# Altium schematic symbol library integrated_circuits_schematic.SchLib: 128 symbols (part 3 of 5)
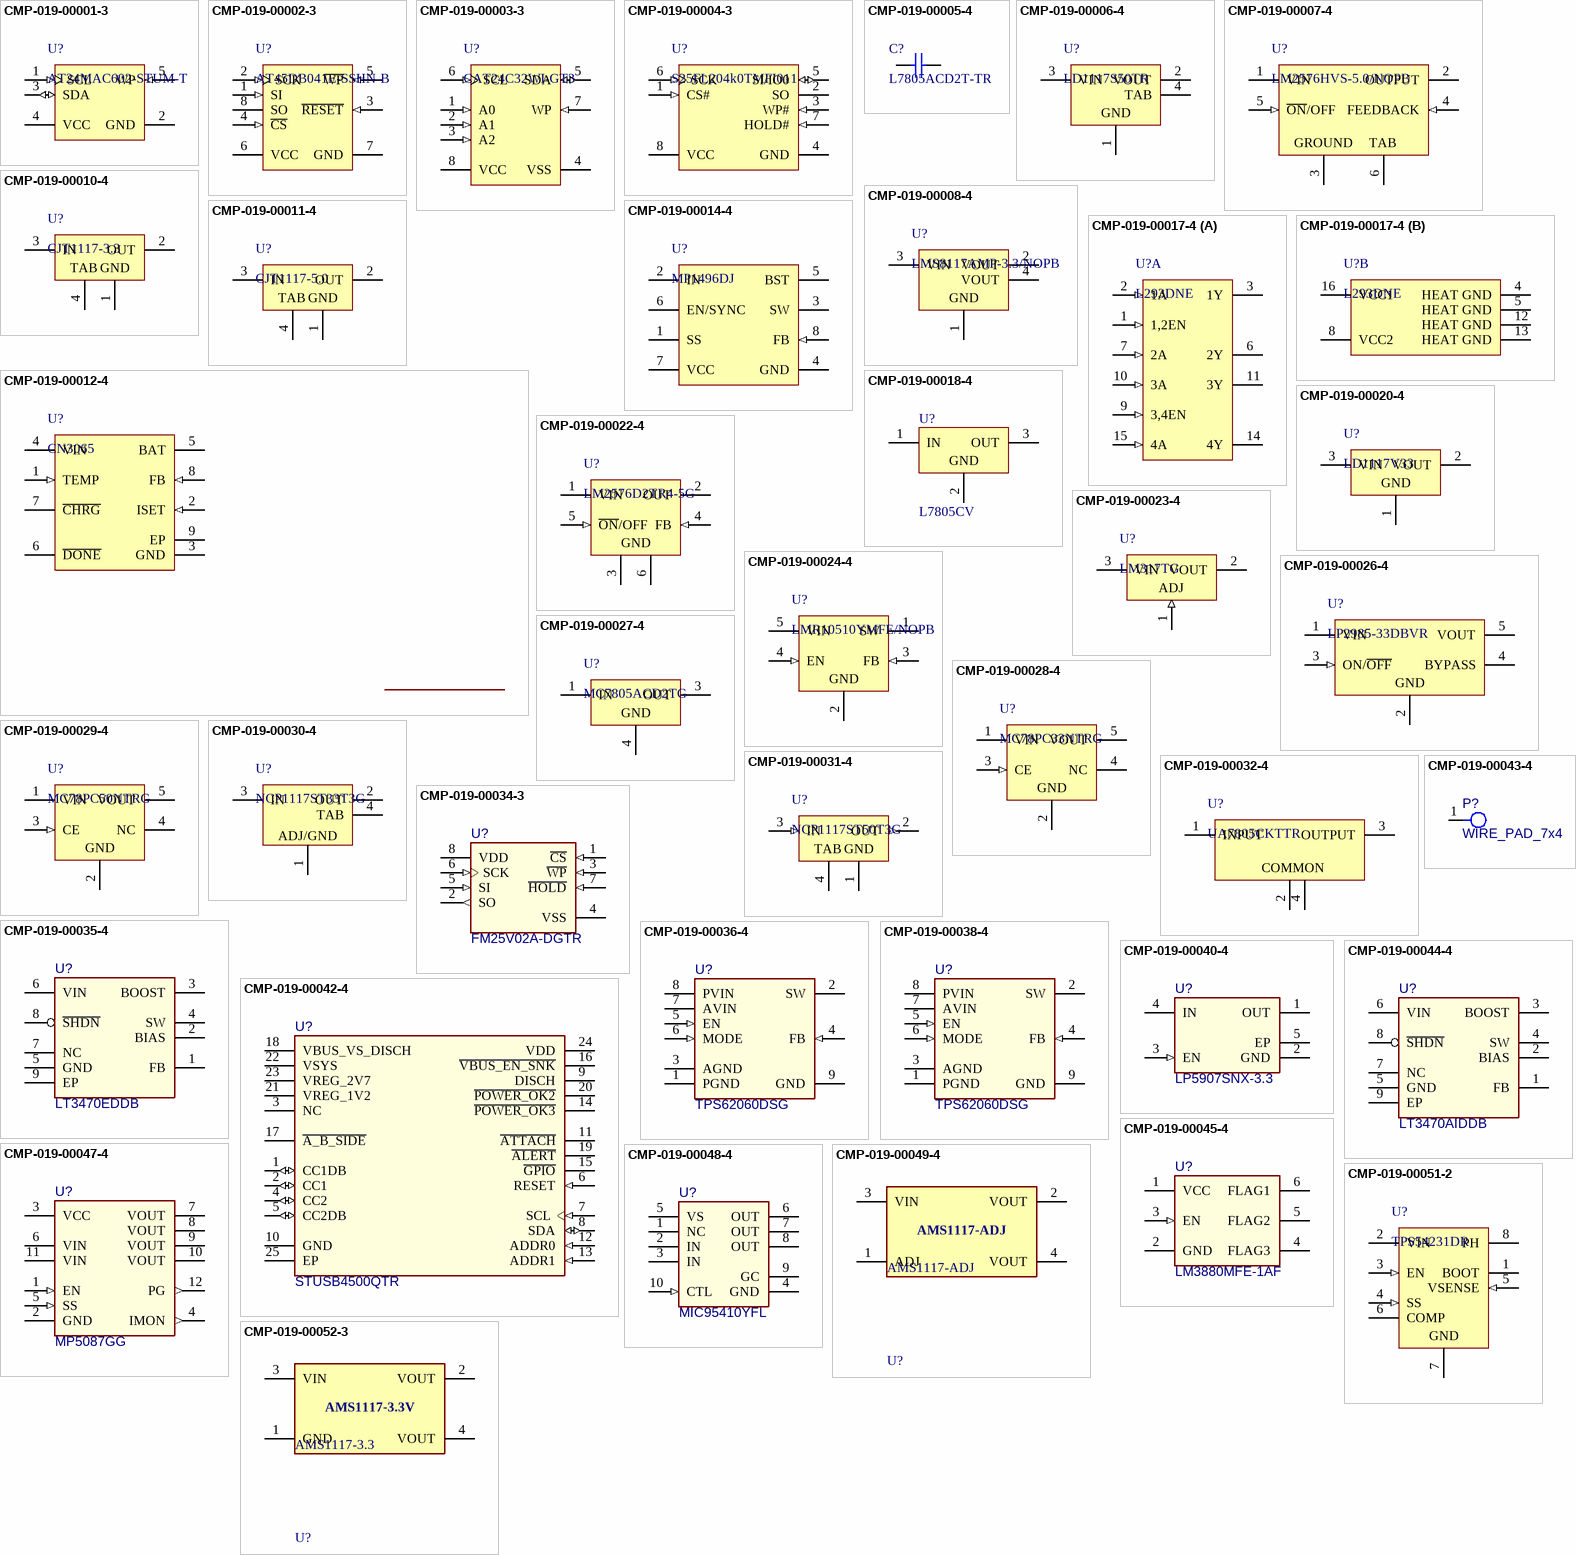
[diagram p9: symbols CMP-019-00001-3 to CMP-019-00052-3]

## CMP-019-00045-4
designator U?, comment LM3880MFE-1AF
Power Sequencer, 6-pin SOT-23, 250 Reel; ComponentLink1URL: http://www.ti.com/general/docs/lit/getliterature.tsp?genericPartNumber=LM3880&fileType=pdf; ComponentLink1Description: Datasheet URL; Pins: 6; RoHS Compliant: Y
footprint DBV0006A_N (SOT23, 6-Leads, Body 3.05x1.75mm, Pitch 0.95mm, IPC Medium Density)
footprint DBV0006A_N (SOT23, 6-Leads, Body 3.05x1.75mm, Pitch 0.95mm, IPC Medium Density)
pins: 1 VCC (power), 2 GND (power), 3 EN (in), 4 FLAG3 (oc), 5 FLAG2 (oc), 6 FLAG1 (oc)

## CMP-019-00047-4
designator U?, comment MP5087GG
Low RDSON Load Switch with Current Monitoring, 5.5 V, 7 A, -40 to 125 degC, 12-Pin QFN, RoHS; Pins: 12; Mounting Technology: SMT
footprint MPS-QFN-12_V (QFN, 12-Leads, Body 2x2mm, Pitch 0.4mm)
footprint MPS-QFN-12_V (QFN, 12-Leads, Body 2x2mm, Pitch 0.4mm)
pins: 1 EN (in), 2 GND (power), 3 VCC (power), 4 IMON (out), 5 SS (in), 6 VIN, 7 VOUT, 8 VOUT, 9 VOUT, 10 VOUT, 11 VIN, 12 PG (out)

## CMP-019-00048-4
designator U?, comment MIC95410YFL
High Side Load Switch, 2.7 to 9 V, 7 A, 6.6 mOhm, -40 to 125 degC, 10-Pin QFN, RoHS; Mounting Technology: SMT; Pins: 10
footprint MCHP-QFN-10_V (QFN, 10-Leads, Body 1.2x2mm, Pitch 0.5mm)
footprint MCHP-QFN-10_V (QFN, 10-Leads, Body 1.2x2mm, Pitch 0.5mm)
pins: 1 NC, 2 IN, 3 IN, 4 GND (power), 5 VS (power), 6 OUT, 7 OUT, 8 OUT, 9 GC, 10 CTL (in)

## CMP-019-00049-4
designator U?, comment AMS1117-ADJ
Adjustable Positive LDO Regulator, PDSO3; Output Current: 1A; Nominal Supply Current: 5mA; Max Supply Voltage: 15V; Dropout Voltage: 1.3V; Case/Package: SOT-223; Locally Supplier Name: Thegioiic; RoHS Compliant: Yes; Pins: 4; Min Operating Temperature: -40°C; Mounting Technology: SMT; Locally Supplier URL: https://www.thegioiic.com/ams1117-adj-ic-dieu-chinh-dien-ap-1a-sot-223; Max Operating Temperature: 125°C
footprint FP-ams1117-IPC_B
footprint FP-ams1117-IPC_C
footprint FP-AMS1117-ADJ-SOT-223
footprint FP-ams1117-IPC_A
pins: 1 ADJ (power), 2 VOUT, 3 VIN (power), 4 VOUT

## CMP-019-00051-2
designator U?, comment TPS54231DR
Switching Regulator, Current-mode, 2A, 570kHz Switching Freq-Max, PDSO8; Max Supply Voltage: 28V; Frequency: 740kHz; Pins: 8; Case/Package: SOP; Locally Supplier URL: https://www.thegioiic.com/tps54231dr-ic-dieu-chinh-giam-ap-2a-8-soic; Locally Supplier Name: Thegioiic; Max Operating Temperature: 150°C; RoHS Compliant: Yes; Min Operating Temperature: -40°C
footprint D0008A_M (SOIC, 8-Leads, Body 5x4mm, Pitch 1.27mm, IPC Low Density)
footprint D0008A_N (SOIC, 8-Leads, Body 5x4mm, Pitch 1.27mm, IPC Medium Density)
footprint D0008A_L (SOIC, 8-Leads, Body 5x4mm, Pitch 1.27mm, IPC High Density)
pins: 1 BOOT "A 0.1 uF bootstrap capacitor is required between BOOT and PH. If the voltage on this capacitor falls below the minimum requirement, the high-side MOSFET is forced to switch off until the capacitor is refreshed.", 2 VIN (power) "Input supply voltage, 3.5 V to 28 V.", 3 EN (in) "Enable pin. Pull below 1.25 V to disable. Float to enable. Programming the input undervoltage lockout with two resistors is recommended.", 4 SS (in) "Slow start pin. An external capacitor connected to this pin sets the output rise time.", 5 VSENSE (in) "Inverting node of the gm error amplifier.", 6 COMP "Error amplifier output, and input to the PWM comparator. Connect frequency compensation components to this pin.", 7 GND (power) "Ground.", 8 PH (power) "The source of the internal high-side power MOSFET"

## CMP-019-00052-3
designator U?, comment AMS1117-3.3
Fixed Positive LDO Regulator, 3.3V, 1.3V Dropout, PDSO3; Output Current: 1A; Max Supply Voltage: 15V; Min Supply Voltage: 4.8V; Case/Package: SOT-223; Dropout Voltage: 1.3V; Output Voltage: 3.3V; Pins: 3; Nominal Supply Current: 1A; RoHS Compliant: Yes; Max Operating Temperature: 125°C; Mounting Technology: SMT; Locally Supplier URL: https://www.thegioiic.com/ams1117-3-3v-ic-on-ap-3-3v-1a-sot-223; Locally Supplier Name: Thegioiic; Min Operating Temperature: -40°C
footprint FP-AMS1117-3.3-SOT-223
footprint FP-AMS1117-IPC_A-1
footprint FP-AMS1117-IPC_C-2
footprint FP-AMS1117-IPC_B-3
pins: 1 GND (power), 2 VOUT, 3 VIN (power), 4 VOUT
text: AMS1117-3.3V

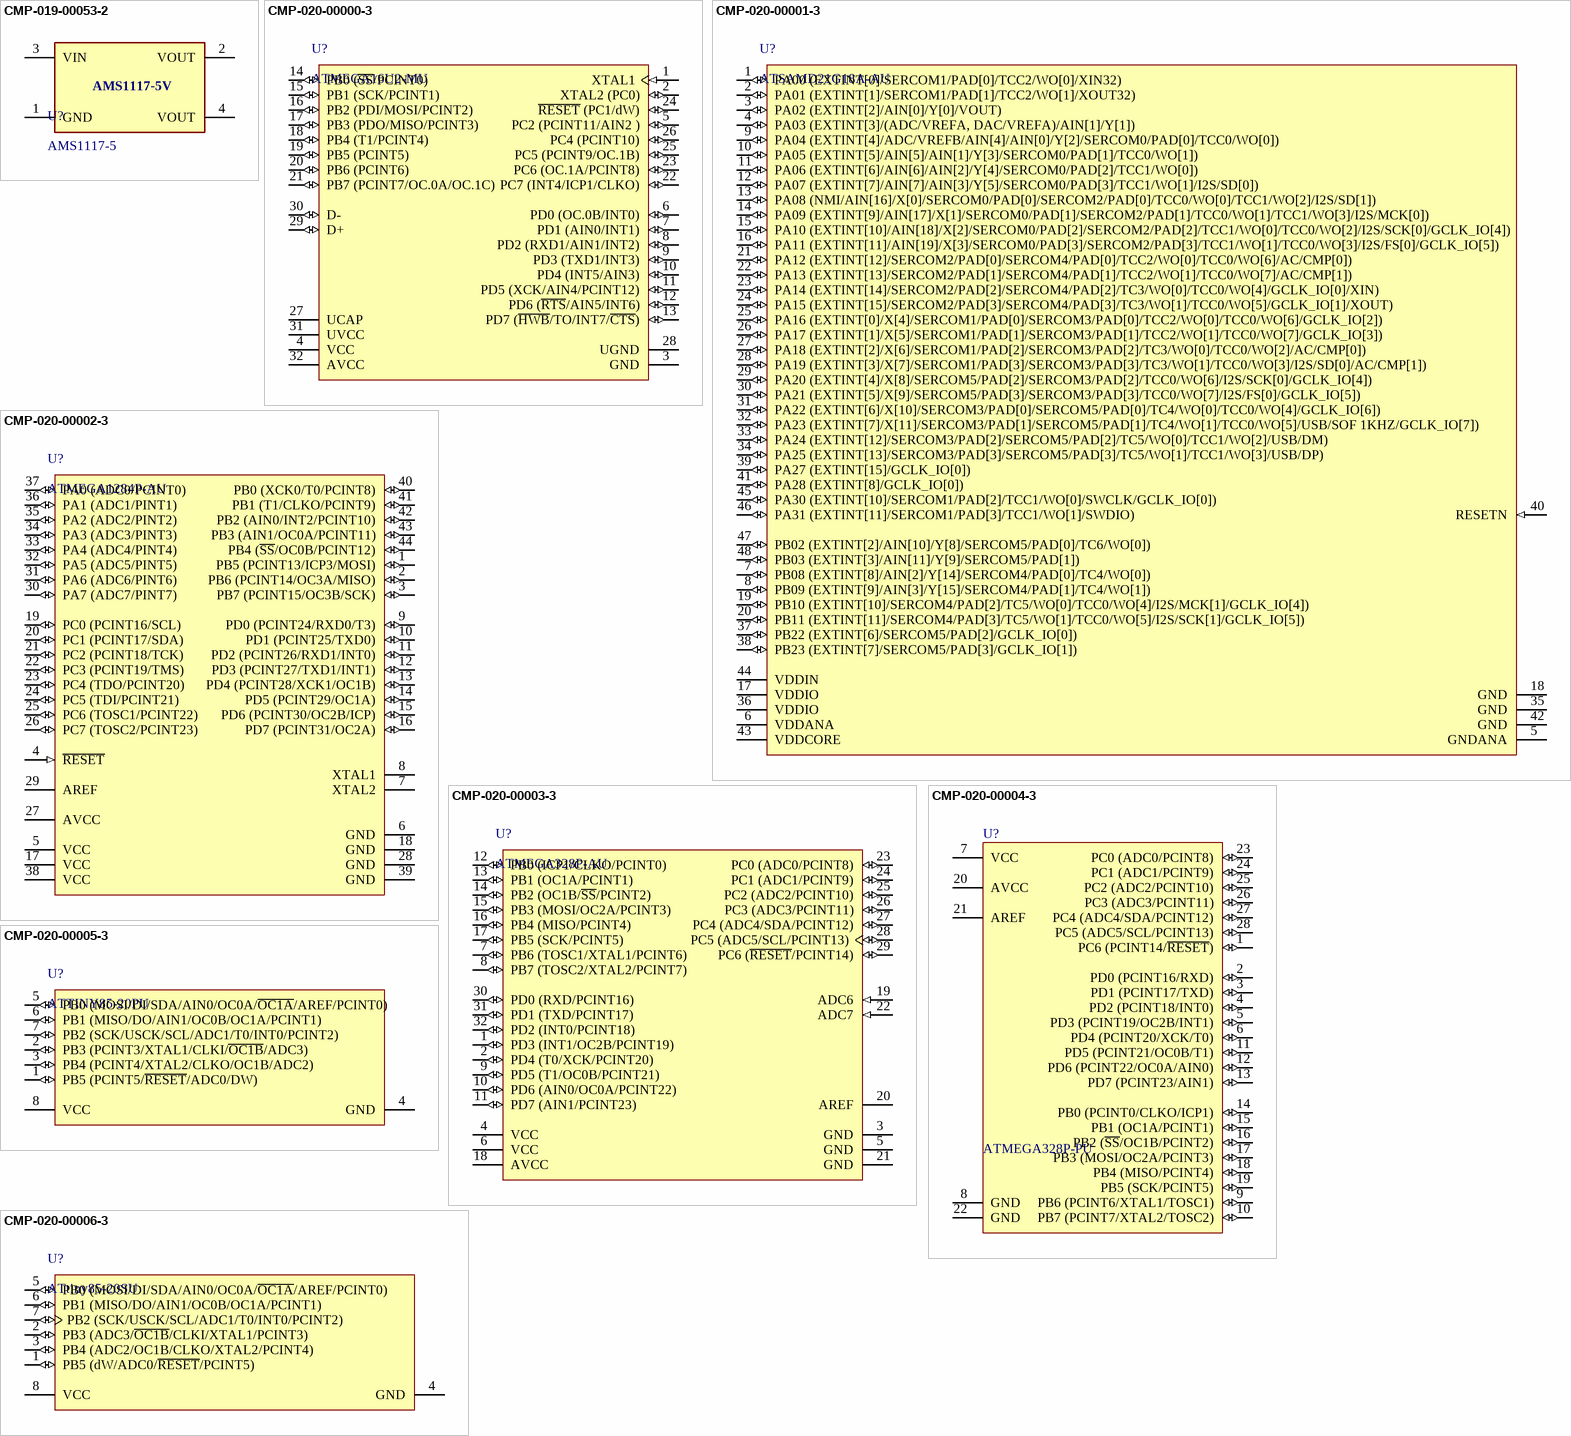
[diagram p3: symbols CMP-019-00053-2 to CMP-020-00006-3]

## CMP-019-00053-2
designator U?, comment AMS1117-5
Fixed Positive LDO Regulator, 5V, 1.3V Dropout, SOT-223; Nominal Supply Current: 5mA; Max Supply Voltage: 15V; Output Current: 1A; Min Supply Voltage: 6.3V; Min Operating Temperature: -40°C; Case/Package: SOT-223; Max Operating Temperature: 125°C; Locally Supplier Name: Thegioiic; Mounting Technology: SMT; Pins: 4; Dropout Voltage: 1.3V; RoHS Compliant: Yes; Locally Supplier URL: https://www.thegioiic.com/ams1117-5-0v-ic-on-ap-5v-1a-sot-223; Output Voltage: 5V
footprint PF_AMS1117-5V-SOT223
pins: 1 GND (power), 2 VOUT, 3 VIN (power), 4 VOUT
text: AMS1117-5V

## CMP-020-00000-3
designator U?, comment ATMEGA16U2-MU
8-Bit Microcontroller with ISP Flash and USB Controller, 16 KB, 16 MHz, 2.7 to 5.5 V, -40 to 85 degC, 32-Pin VQFN, RoHS, Tray; Manufacturer: Atmel; Package Version: Rev. N, 01/2015; Max Clock Frequency: 16MHz; I/Os: 22; Density: 16KB; Min Supply Voltage: 2.7V; RAM Size: 1.25KB; Interface: UART; Max Supply Voltage: 5.5V; RoHS Compliant: True; Case/Package: QFN; Max Operating Temperature: 85°C; Package Description: 32-Pin Quad Flat No Lead Package, Body 5 x 5 mm, Pitch 0.5 mm; Min Operating Temperature: -40°C; Mounting Technology: SM; Datasheet Version: Rev. 7799E, 09/2012; Package Reference: QFN32; Package Quantity: 2450; Frequency: 16MHz; Datasheet URL: http://www.atmel.com/Images/doc7799.pdf; Packaging: Tray; Pins: 32; Package URL: http://www.atmel.com/images/atmel-42129-sam-d20_datasheet.pdf; Manufacturer URL: http://www.atmel.com/
footprint ATML-QFN-32_N (QFN, 32-Leads, Body 5.00x5.00mm, Pitch 0.50mm, Thermal Pad 3.60x3.60mm, IPC Medium Density)
footprint ATML-QFN-32_L (QFN, 32-Leads, Body 5x5mm, Pitch 0.5mm, Thermal Pad 3.6x3.6mm, IPC High Density)
footprint ATML-QFN-32_M (QFN, 32-Leads, Body 5x5mm, Pitch 0.5mm, Thermal Pad 3.6x3.6mm, IPC Low Density)
pins: 1 XTAL1 (in) "Input to the inverting Oscillator amplifier and input to the internal clock operating circuit.", 2 XTAL2 (PC0) (io), 3 GND (power) "Ground.", 4 VCC (power) "Digital supply voltage.", 5 PC2 (PCINT11/AIN2 ) (io), 6 PD0 (OC.0B/INT0) (io), 7 PD1 (AIN0/INT1) (io), 8 PD2 (RXD1/AIN1/INT2) (io), 9 PD3 (TXD1/INT3) (io), 10 PD4 (INT5/AIN3) (io), 11 PD5 (XCK/AIN4/PCINT12) (io), 12 PD6 (~{RTS}/AIN5/INT6) (io), 13 PD7 (~{HWB}/TO/INT7/~{CTS}) (io), 14 PB0 (~{SS}/PCINT0) (io), 15 PB1 (SCK/PCINT1) (io), 16 PB2 (PDI/MOSI/PCINT2) (io), 17 PB3 (PDO/MISO/PCINT3) (io), 18 PB4 (T1/PCINT4) (io), 19 PB5 (PCINT5) (io), 20 PB6 (PCINT6) (io), 21 PB7 (PCINT7/OC.0A/OC.1C) (io), 22 PC7 (INT4/ICP1/CLKO) (io), 23 PC6 (OC.1A/PCINT8) (io), 24 ~{RESET} (PC1/dW) (io), 25 PC5 (PCINT9/OC.1B) (io), 26 PC4 (PCINT10) (io), 27 UCAP (power) "USB Pads Internal Regulator Output supply voltage. Should be connected to an external capacitor (1uF).", 28 UGND (power) "USB Ground.", 29 D+ (io) "USB Full Speed Positive Data Upstream Port", 30 D- (io) "USB Full Speed Negative Data Upstream Port", 31 UVCC (power) "USB Pads Internal Regulator Input supply voltage.", 32 AVCC (power) "AVCC is the supply voltage pin (input) for all analog features (Analog Comparator, PLL). It should be externally connected to VCC through a low-pass filter."

## CMP-020-00001-3
designator U?, comment ATSAMD21G18A-AU
SMART ARM-Based Microcontroller, 1.62 to 3.63 V, 256 KB Flash, 32 KB SRAM, -40 to 85 degC, 48-Pin TQFP, RoHS, Tray; Manufacturer: Atmel; Interface: USART; I/Os: 38; Max Supply Voltage: 3.63V; Min Supply Voltage: 1.62V; Density: 256KB; RAM Size: 32KB; Package Reference: TQFP48; Datasheet URL: http://www.atmel.com/images/atmel-42181-sam-d21_datasheet.pdf; Mounting Technology: SM; Datasheet Version: Rev. N, 10/2016; Package Description: 48-Pin Thin Profile Plastic Quad Flat Package, Body 7 x 7 mm, Pitch 0.5 mm; Case/Package: TQFP; Pins: 48; Min Operating Temperature: -40°C; Manufacturer URL: http://www.atmel.com/; Packaging: Tray; Max Operating Temperature: 85°C; RoHS Compliant: True
footprint ATML-TQFP48_M (QFP, 48-Leads, Body 7x7mm, Pitch 0.5mm, IPC Low Density)
footprint ATML-TQFP48_L (QFP, 48-Leads, Body 7x7mm, Pitch 0.5mm, IPC High Density)
footprint ATML-TQFP48_N (QFP, 48-Leads, Body 7x7mm, Pitch 0.5mm, IPC Medium Density)
pins: 1 PA00 (EXTINT[0]/SERCOM1/PAD[0]/TCC2/WO[0]/XIN32) (io), 2 PA01 (EXTINT[1]/SERCOM1/PAD[1]/TCC2/WO[1]/XOUT32) (io), 3 PA02 (EXTINT[2]/AIN[0]/Y[0]/VOUT) (io), 4 PA03 (EXTINT[3]/(ADC/VREFA, DAC/VREFA)/AIN[1]/Y[1]) (io), 5 GNDANA (power) "Ground for the analog power domain", 6 VDDANA (power) "Analog supply voltage", 7 PB08 (EXTINT[8]/AIN[2]/Y[14]/SERCOM4/PAD[0]/TC4/WO[0]) (io), 8 PB09 (EXTINT[9]/AIN[3]/Y[15]/SERCOM4/PAD[1]/TC4/WO[1]) (io), 9 PA04 (EXTINT[4]/ADC/VREFB/AIN[4]/AIN[0]/Y[2]/SERCOM0/PAD[0]/TCC0/WO[0]) (io), 10 PA05 (EXTINT[5]/AIN[5]/AIN[1]/Y[3]/SERCOM0/PAD[1]/TCC0/WO[1]) (io), 11 PA06 (EXTINT[6]/AIN[6]/AIN[2]/Y[4]/SERCOM0/PAD[2]/TCC1/WO[0]) (io), 12 PA07 (EXTINT[7]/AIN[7]/AIN[3]/Y[5]/SERCOM0/PAD[3]/TCC1/WO[1]/I2S/SD[0]) (io), 13 PA08 (NMI/AIN[16]/X[0]/SERCOM0/PAD[0]/SERCOM2/PAD[0]/TCC0/WO[0]/TCC1/WO[2]/I2S/SD[1]) (io), 14 PA09 (EXTINT[9]/AIN[17]/X[1]/SERCOM0/PAD[1]/SERCOM2/PAD[1]/TCC0/WO[1]/TCC1/WO[3]/I2S/MCK[0]) (io), 15 PA10 (EXTINT[10]/AIN[18]/X[2]/SERCOM0/PAD[2]/SERCOM2/PAD[2]/TCC1/WO[0]/TCC0/WO[2]/I2S/SCK[0]/GCLK_IO[4]) (io), 16 PA11 (EXTINT[11]/AIN[19]/X[3]/SERCOM0/PAD[3]/SERCOM2/PAD[3]/TCC1/WO[1]/TCC0/WO[3]/I2S/FS[0]/GCLK_IO[5]) (io), 17 VDDIO (power) "Digital supply voltage", 18 GND (power) "Ground", 19 PB10 (EXTINT[10]/SERCOM4/PAD[2]/TC5/WO[0]/TCC0/WO[4]/I2S/MCK[1]/GCLK_IO[4]) (io), 20 PB11 (EXTINT[11]/SERCOM4/PAD[3]/TC5/WO[1]/TCC0/WO[5]/I2S/SCK[1]/GCLK_IO[5]) (io), 21 PA12 (EXTINT[12]/SERCOM2/PAD[0]/SERCOM4/PAD[0]/TCC2/WO[0]/TCC0/WO[6]/AC/CMP[0]) (io), 22 PA13 (EXTINT[13]/SERCOM2/PAD[1]/SERCOM4/PAD[1]/TCC2/WO[1]/TCC0/WO[7]/AC/CMP[1]) (io), 23 PA14 (EXTINT[14]/SERCOM2/PAD[2]/SERCOM4/PAD[2]/TC3/WO[0]/TCC0/WO[4]/GCLK_IO[0]/XIN) (io), 24 PA15 (EXTINT[15]/SERCOM2/PAD[3]/SERCOM4/PAD[3]/TC3/WO[1]/TCC0/WO[5]/GCLK_IO[1]/XOUT) (io), 25 PA16 (EXTINT[0]/X[4]/SERCOM1/PAD[0]/SERCOM3/PAD[0]/TCC2/WO[0]/TCC0/WO[6]/GCLK_IO[2]) (io), 26 PA17 (EXTINT[1]/X[5]/SERCOM1/PAD[1]/SERCOM3/PAD[1]/TCC2/WO[1]/TCC0/WO[7]/GCLK_IO[3]) (io), 27 PA18 (EXTINT[2]/X[6]/SERCOM1/PAD[2]/SERCOM3/PAD[2]/TC3/WO[0]/TCC0/WO[2]/AC/CMP[0]) (io), 28 PA19 (EXTINT[3]/X[7]/SERCOM1/PAD[3]/SERCOM3/PAD[3]/TC3/WO[1]/TCC0/WO[3]/I2S/SD[0]/AC/CMP[1]) (io), 29 PA20 (EXTINT[4]/X[8]/SERCOM5/PAD[2]/SERCOM3/PAD[2]/TCC0/WO[6]/I2S/SCK[0]/GCLK_IO[4]) (io), 30 PA21 (EXTINT[5]/X[9]/SERCOM5/PAD[3]/SERCOM3/PAD[3]/TCC0/WO[7]/I2S/FS[0]/GCLK_IO[5]) (io), 31 PA22 (EXTINT[6]/X[10]/SERCOM3/PAD[0]/SERCOM5/PAD[0]/TC4/WO[0]/TCC0/WO[4]/GCLK_IO[6]) (io), 32 PA23 (EXTINT[7]/X[11]/SERCOM3/PAD[1]/SERCOM5/PAD[1]/TC4/WO[1]/TCC0/WO[5]/USB/SOF 1KHZ/GCLK_IO[7]) (io), 33 PA24 (EXTINT[12]/SERCOM3/PAD[2]/SERCOM5/PAD[2]/TC5/WO[0]/TCC1/WO[2]/USB/DM) (io), 34 PA25 (EXTINT[13]/SERCOM3/PAD[3]/SERCOM5/PAD[3]/TC5/WO[1]/TCC1/WO[3]/USB/DP) (io), 35 GND (power) "Ground", 36 VDDIO (power) "Digital supply voltage", 37 PB22 (EXTINT[6]/SERCOM5/PAD[2]/GCLK_IO[0]) (io), 38 PB23 (EXTINT[7]/SERCOM5/PAD[3]/GCLK_IO[1]) (io), 39 PA27 (EXTINT[15]/GCLK_IO[0]) (io), 40 RESETN (in) "Reset pin", 41 PA28 (EXTINT[8]/GCLK_IO[0]) (io), 42 GND (power) "Ground", 43 VDDCORE (power) "Core supply voltage / external decoupling pin", 44 VDDIN (power), 45 PA30 (EXTINT[10]/SERCOM1/PAD[2]/TCC1/WO[0]/SWCLK/GCLK_IO[0]) (io), 46 PA31 (EXTINT[11]/SERCOM1/PAD[3]/TCC1/WO[1]/SWDIO) (io), 47 PB02 (EXTINT[2]/AIN[10]/Y[8]/SERCOM5/PAD[0]/TC6/WO[0]) (io), 48 PB03 (EXTINT[3]/AIN[11]/Y[9]/SERCOM5/PAD[1]) (io)

## CMP-020-00002-3
designator U?, comment ATMEGA1284P-AU
8-Bit Microcontroller with 128 KBytes In-System Programmable Flash, 32 I/Os, -40 to 85 degC, 44-Pin TQFP (44A), RoHS, Tray; Manufacturer: Atmel; Density: 128KB; Frequency: 20MHz; RAM Size: 16KB; PWM Channels: 6; USB Channels: 0; I/Os: 32; Min Supply Voltage: 1.8V; Max Supply Voltage: 5.5V; Interface: USART; ADC Channels: 8; Pins: 8; Manufacturer URL: http://www.atmel.com/; Case/Package: TQFP; Max Operating Temperature: 85°C; Package Description: 44-Pin Quad Flat Package, Body 10 x 10 mm, Pitch 0.8 mm; Mounting Technology: SM; Package Reference: 44A; Min Operating Temperature: -40°C; Clock Frequency: 20MHz; Datasheet Version: Rev. 8272G, 01/2015; Package Quantity: 160; Ethernet Channels: 0; Packaging: Tray; Datasheet URL: http://www.atmel.com/images/atmel-8272-8-bit-avr-microcontroller-atmega164a_pa-324a_pa-644a_pa-1284_p_summary.pdf; Max Clock Frequency: 20MHz; RoHS Compliant: True
footprint ATML-44A_M (TQFP, 44-Leads, Body 10x10mm, Pitch 0.8mm, IPC Low Density)
footprint ATML-44A_N (TQFP, 44-Leads, Body 10x10mm, Pitch 0.8mm, IPC Medium Density)
footprint ATML-44A_L (TQFP, 44-Leads, Body 10x10mm, Pitch 0.8mm, IPC High Density)
pins: 1 PB5 (PCINT13/ICP3/MOSI) (io), 2 PB6 (PCINT14/OC3A/MISO) (io), 3 PB7 (PCINT15/OC3B/SCK) (io), 4 ~{RESET} (in) "Reset input.", 5 VCC (power) "Digital supply voltage.", 6 GND (power) "Ground.", 7 XTAL2 "Output from the inverting Oscillator amplifier.", 8 XTAL1 "Input to the inverting Oscillator amplifier and input to the internal clock operating circuit.", 9 PD0 (PCINT24/RXD0/T3) (io), 10 PD1 (PCINT25/TXD0) (io), 11 PD2 (PCINT26/RXD1/INT0) (io), 12 PD3 (PCINT27/TXD1/INT1) (io), 13 PD4 (PCINT28/XCK1/OC1B) (io), 14 PD5 (PCINT29/OC1A) (io), 15 PD6 (PCINT30/OC2B/ICP) (io), 16 PD7 (PCINT31/OC2A) (io), 17 VCC (power) "Digital supply voltage.", 18 GND (power) "Ground.", 19 PC0 (PCINT16/SCL) (io), 20 PC1 (PCINT17/SDA) (io), 21 PC2 (PCINT18/TCK) (io), 22 PC3 (PCINT19/TMS) (io), 23 PC4 (TDO/PCINT20) (io), 24 PC5 (TDI/PCINT21) (io), 25 PC6 (TOSC1/PCINT22) (io), 26 PC7 (TOSC2/PCINT23) (io), 27 AVCC (power) "AVCC is the supply voltage pin for Port A and the Analog-to-digital Converter.", 28 GND (power) "Ground.", 29 AREF "This is the analog reference pin for the Analog-to-digital Converter.", 30 PA7 (ADC7/PINT7) (io), 31 PA6 (ADC6/PINT6) (io), 32 PA5 (ADC5/PINT5) (io), 33 PA4 (ADC4/PINT4) (io), 34 PA3 (ADC3/PINT3) (io), 35 PA2 (ADC2/PINT2) (io), 36 PA1 (ADC1/PINT1) (io), 37 PA0 (ADC0/PCINT0) (io), 38 VCC (power) "Digital supply voltage.", 39 GND (power) "Ground.", 40 PB0 (XCK0/T0/PCINT8) (io), 41 PB1 (T1/CLKO/PCINT9) (io), 42 PB2 (AIN0/INT2/PCINT10) (io), 43 PB3 (AIN1/OC0A/PCINT11) (io), 44 PB4 (~{SS}/OC0B/PCINT12) (io)

## CMP-020-00003-3
designator U?, comment ATMEGA328P-AU
8-Bit Microcontroller with 32 KBytes In-System Programmable Flash, 23 I/Os, -40 to 85 degC, 32-Pin TQFP (32A), RoHS, Tray; Manufacturer: Atmel; PWM Channels: 6; Frequency: 20MHz; RAM Size: 2KB; ADC Channels: 8; Max Supply Voltage: 5.5V; Density: 32KB; USB Channels: 0; I/Os: 23; Min Supply Voltage: 1.8V; Interface: USART; Package Reference: 32A; Package Description: 32-Pin Thin Profile Plastic Quad Flat Package, Body 7 x 7 mm, Pitch 0.8 mm; Max Operating Temperature: 85°C; Mounting Technology: SM; Datasheet URL: http://www.atmel.com/images/Atmel-8271-8-bit-AVR-Microcontroller-ATmega48A-48PA-88A-88PA-168A-168PA-328-328P_datasheet_Complete.pdf; Pins: 32; Packaging: Tray; RoHS Compliant: True; Max Clock Frequency: 20MHz; Ethernet Channels: 0; Clock Frequency: 20MHz; Case/Package: TQFP; Manufacturer URL: http://www.atmel.com/; Datasheet Version: Rev. 8271J, 11/2015; Package Quantity: 250; Min Operating Temperature: -40°C
footprint ATML-32A_N (TQFP, 32-Leads, Body 7x7mm, Pitch 0.8mm, IPC Medium Density)
footprint ATML-32A_L (TQFP, 32-Leads, Body 7x7mm, Pitch 0.8mm, IPC High Density)
footprint ATML-32A_M (TQFP, 32-Leads, Body 7x7mm, Pitch 0.8mm, IPC Low Density)
pins: 1 PD3 (INT1/OC2B/PCINT19) (io), 2 PD4 (T0/XCK/PCINT20) (io), 3 GND (power) "Ground.", 4 VCC (power) "Digital supply voltage.", 5 GND (power) "Ground.", 6 VCC (power) "Digital supply voltage.", 7 PB6 (TOSC1/XTAL1/PCINT6) (io), 8 PB7 (TOSC2/XTAL2/PCINT7) (io), 9 PD5 (T1/OC0B/PCINT21) (io), 10 PD6 (AIN0/OC0A/PCINT22) (io), 11 PD7 (AIN1/PCINT23) (io), 12 PB0 (ICP1/CLKO/PCINT0) (io), 13 PB1 (OC1A/PCINT1) (io), 14 PB2 (OC1B/~{SS}/PCINT2) (io), 15 PB3 (MOSI/OC2A/PCINT3) (io), 16 PB4 (MISO/PCINT4) (io), 17 PB5 (SCK/PCINT5) (io), 18 AVCC (power) "AVCC is the supply voltage pin for the A/D Converter, PC3:0, and ADC7:6. It should be externally connected to VCC, even if the ADC is not used. If the ADC is used, it should be connected to VCC through a low-pass filter. (See Datasheet)", 19 ADC6 (in) "In the TQFP and QFN/MLF package, ADC7:6 serve as analog inputs to the A/D converter.These pins are powered from the analog supply and serve as 10-bit ADC channels.", 20 AREF "AREF is the analog reference pin for the A/D Converter.", 21 GND (power) "Ground.", 22 ADC7 (in) "In the TQFP and QFN/MLF package, ADC7:6 serve as analog inputs to the A/D converter.These pins are powered from the analog supply and serve as 10-bit ADC channels.", 23 PC0 (ADC0/PCINT8) (io), 24 PC1 (ADC1/PCINT9) (io), 25 PC2 (ADC2/PCINT10) (io), 26 PC3 (ADC3/PCINT11) (io), 27 PC4 (ADC4/SDA/PCINT12) (io), 28 PC5 (ADC5/SCL/PCINT13) (io), 29 PC6 (~{RESET}/PCINT14) (io), 30 PD0 (RXD/PCINT16) (io), 31 PD1 (TXD/PCINT17) (io), 32 PD2 (INT0/PCINT18) (io)

## CMP-020-00004-3
designator U?, comment ATMEGA328P-PU
8-Bit Microcontroller with 32 KBytes In-System Programmable Flash, 23 I/Os, -40 to 85 degC, 28-Pin PDIP (28P3), RoHS, Tube; Manufacturer: Atmel; I/Os: 23; Density: 32KB; Package Version: Rev. B, 09/2001; Max Clock Frequency: 20MHz; Interface: USART; Max Supply Voltage: 5.5V; Min Supply Voltage: 1.8V; Ethernet Channels: 0; RAM Size: 2KB; RoHS Compliant: True; Datasheet URL: http://www.atmel.com/images/Atmel-8271-8-bit-AVR-Microcontroller-ATmega48A-48PA-88A-88PA-168A-168PA-328-328P_datasheet_Complete.pdf; Packaging: Rail/Tube; Manufacturer URL: http://www.atmel.com/; Mounting Technology: TH; Package URL: http://www.atmel.com/images/Atmel-8271-8-bit-AVR-Microcontroller-ATmega48A-48PA-88A-88PA-168A-168PA-328-328P_datasheet_Complete.pdf; Datasheet Version: Rev. 8271J, 11/2015; Package Description: 28-Pin Plastic Dual Inline Package, Body 34.671 x 7.3025 mm, Pitch 2.54 mm; Package Quantity: 14; Min Operating Temperature: -40°C; Max Operating Temperature: 85°C; Case/Package: DIP; Pins: 28; Package Reference: 28P3
footprint ATML-28P3 (DIP, 28-Leads, Body 34.8x7.2mm, Pitch 2.54mm)
pins: 1 PC6 (PCINT14/~{RESET}) (io), 2 PD0 (PCINT16/RXD) (io), 3 PD1 (PCINT17/TXD) (io), 4 PD2 (PCINT18/INT0) (io), 5 PD3 (PCINT19/OC2B/INT1) (io), 6 PD4 (PCINT20/XCK/T0) (io), 7 VCC (power), 8 GND (power), 9 PB6 (PCINT6/XTAL1/TOSC1) (io), 10 PB7 (PCINT7/XTAL2/TOSC2) (io), 11 PD5 (PCINT21/OC0B/T1) (io), 12 PD6 (PCINT22/OC0A/AIN0) (io), 13 PD7 (PCINT23/AIN1) (io), 14 PB0 (PCINT0/CLKO/ICP1) (io), 15 PB1 (OC1A/PCINT1) (io), 16 PB2 (~{SS}/OC1B/PCINT2) (io), 17 PB3 (MOSI/OC2A/PCINT3) (io), 18 PB4 (MISO/PCINT4) (io), 19 PB5 (SCK/PCINT5) (io), 20 AVCC (power), 21 AREF (power), 22 GND (power), 23 PC0 (ADC0/PCINT8) (io), 24 PC1 (ADC1/PCINT9) (io), 25 PC2 (ADC2/PCINT10) (io), 26 PC3 (ADC3/PCINT11) (io), 27 PC4 (ADC4/SDA/PCINT12) (io), 28 PC5 (ADC5/SCL/PCINT13) (io)

## CMP-020-00005-3
designator U?, comment ATTINY85-20PU
8-bit AVR(R) Microcontroller with 8 KBytes In-System Programmable Flash, 2.7 to 5.5 V, -40 to 85 degC, 8-Pin DIP, Pb-Free; Manufacturer: Atmel; Frequency: 20MHz; Max Supply Voltage: 5.5V; Density: 8KB; UART Channels: 1; USB Channels: 0; I/Os: 6; RAM Size: 512B; Interface: SPI; ADC Channels: 4; Min Supply Voltage: 2.7V; Package Version: Rev. E, 07/2014; Max Operating Temperature: 85°C; Package Description: 8-Pin Plastic Dual Inline Package, Body 9.271 x 6.35 mm, Pitch 2.54 mm; Pins: 8; Min Operating Temperature: -40°C; Manufacturer URL: http://www.atmel.com/; Packaging: Rail/Tube; Package Quantity: 50; Datasheet Version: Rev. 2586K, 01/2008; Max Clock Frequency: 20MHz; Package URL: http://www.atmel.com/Images/doc2535.pdf; PWM Channels: 6; Datasheet URL: https://datasheet.ciiva.com/20168/73-5122-20168321.pdf; Mounting Technology: TH; RoHS Compliant: True; Package Reference: 8P3; Case/Package: DIP
footprint ATML-8P3 (DIP, 8-Leads, Body 10.15x7.1mm, Pitch 2.54mm)
pins: 1 PB5 (PCINT5/~{RESET}/ADC0/DW) (io), 2 PB3 (PCINT3/XTAL1/CLKI/~{OC1B}/ADC3) (io), 3 PB4 (PCINT4/XTAL2/CLKO/OC1B/ADC2) (io), 4 GND (power), 5 PB0 (MOSI/DI/SDA/AIN0/OC0A/~{OC1A}/AREF/PCINT0) (io), 6 PB1 (MISO/DO/AIN1/OC0B/OC1A/PCINT1) (io), 7 PB2 (SCK/USCK/SCL/ADC1/T0/INT0/PCINT2) (io), 8 VCC (power)

## CMP-020-00006-3
designator U?, comment ATtiny85-20SU
8-bit AVR Microcontroller with In-System Programmable Flash, 2.7 to 5.5 V, 20 MHz, 8 KB Flash, 0.5 KB EEPROM, 0.5 KB SRAM, -40 to 85 degC, 8-Pin SOIC (8S2), RoHS, Tube; Manufacturer: Atmel; ADC Channels: 4; Max Supply Voltage: 5.5V; PWM Channels: 6; UART Channels: 1; Interface: SPI; USB Channels: 0; Min Supply Voltage: 2.7V; Frequency: 20MHz; RAM Size: 512B; Density: 8KB; Datasheet Version: Rev. 2586Q, 08/2013; Package Quantity: 95; RoHS Compliant: True; Manufacturer URL: http://www.atmel.com/; Datasheet URL: http://www.atmel.com/Images/Atmel-2586-AVR-8-bit-Microcontroller-ATtiny25-ATtiny45-ATtiny85_Datasheet.pdf; Package Description: 8-Pin Small Outline Integrated Circuit Package, Body 5.29 x 5.24 mm, Pitch 1.27 mm; Mounting Technology: SM; Max Operating Temperature: 85°C; Case/Package: SOIC; I/Os: 6; Max Clock Frequency: 20MHz; Packaging: Rail/Tube; Min Operating Temperature: -40°C; Pins: 8; Package Reference: 8S2
footprint ATML-8S2_L (SOIC, 8-Leads, Body 5.4x5.4mm, Pitch 1.27mm, IPC High Density)
footprint ATML-8S2_M (SOIC, 8-Leads, Body 5.4x5.4mm, Pitch 1.27mm, IPC Low Density)
footprint ATML-8S2_N (SOIC, 8-Leads, Body 5.4x5.4mm, Pitch 1.27mm, IPC Medium Density)
pins: 1 PB5 (dW/ADC0/~{RESET}/PCINT5) (io), 2 PB3 (ADC3/~{OC1B}/CLKI/XTAL1/PCINT3) (io), 3 PB4 (ADC2/OC1B/CLKO/XTAL2/PCINT4) (io), 4 GND (power) "Ground.", 5 PB0 (MOSI/DI/SDA/AIN0/OC0A/~{OC1A}/AREF/PCINT0) (io), 6 PB1 (MISO/DO/AIN1/OC0B/OC1A/PCINT1) (io), 7 PB2 (SCK/USCK/SCL/ADC1/T0/INT0/PCINT2) (io), 8 VCC (power) "Supply voltage."

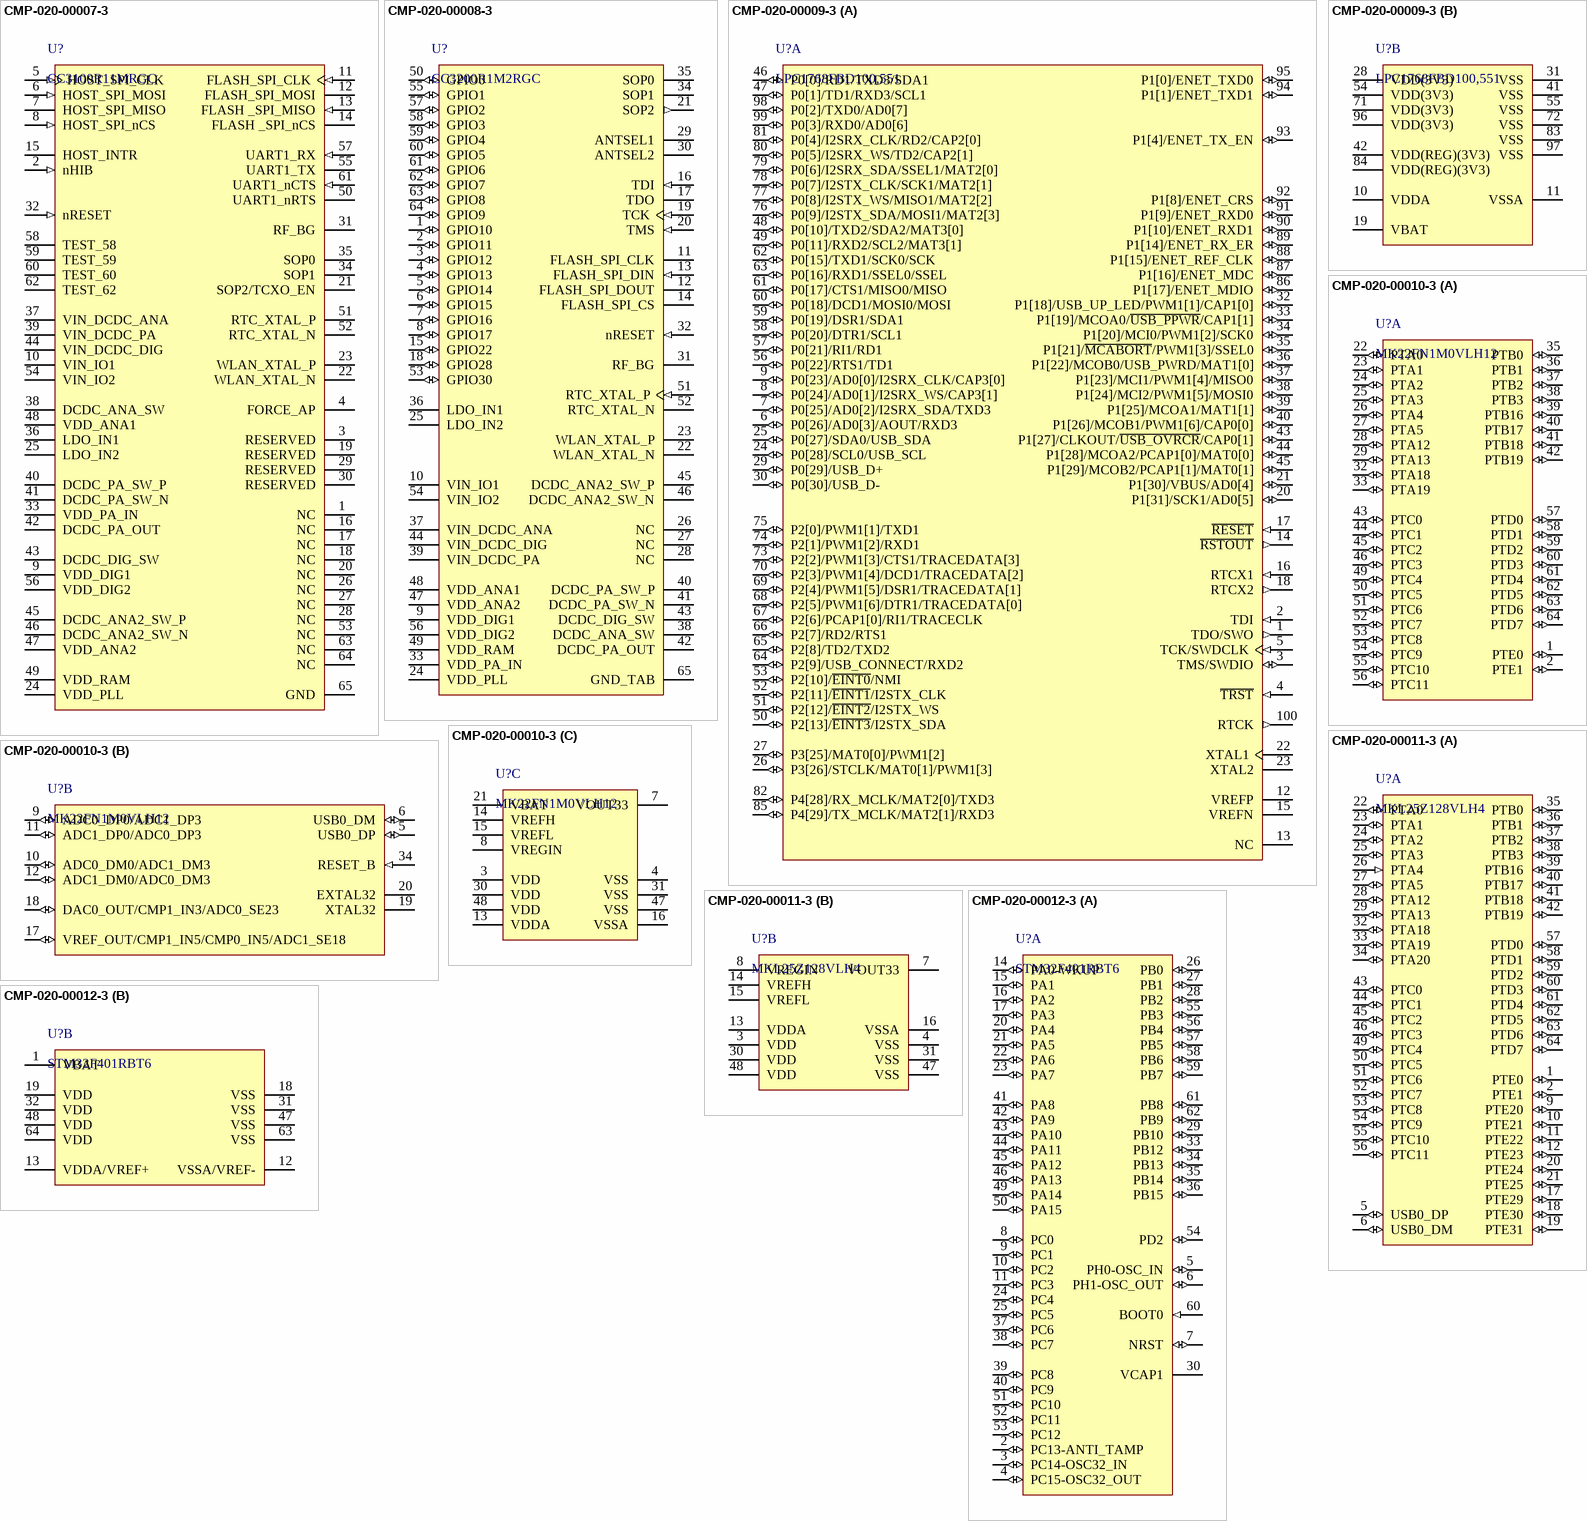
[diagram p4: symbols CMP-020-00007-3 to CMP-020-00012-3]

## CMP-020-00007-3
designator U?, comment CC3100R11MRGC
SimpleLink(TM) Wi-Fi(R) Network Processor, Internet-of-Things Solution for MCU Application, 2.1 to 3.6 V, -40 to 85 degC, 64-Pin VQFN (RGC), Green (RoHS & no Sb/Br), Tray; Manufacturer: Texas Instruments; Max Supply Voltage: 3.6V; Min Supply Voltage: 2.1V; RoHS Compliant: True; Datasheet URL: http://www.ti.com/lit/ds/symlink/cc3100.pdf; Datasheet Version: SWAS031D, 02/2015; Packaging: CutTape; Pins: 64; Case/Package: RGC0064H; Mounting Technology: SM; Package Reference: RGC0064H; Min Operating Temperature: -40°C; Package Description: 64-Pin Quad Flat No-lead Package, Body 9 x 9 mm, Pitch 0.5 mm, Thermal Pad 7.3 x7.3 mm; Max Operating Temperature: 85°C; Manufacturer URL: http://www.ti.com/
footprint RGC0064H_V (QFN, 64-Leads, Body 9x9mm, Pitch 0.5mm, Thermal Pad 7.4x7.4mm, TI Recommend)
pins: 1 NC "Unused; leave unconnected.", 2 nHIB (in) "Hibernate signal input to the NWP (active low). This is connected to the MCU GPIO. If the GPIO from the MCU can float while the MCU enters low power, consider adding a pull-up resistor on the board to avoid floating.", 3 RESERVED "Reserved for future use", 4 FORCE_AP "For forced AP mode, pull to high on the board using 100k resistor. Otherwise, pull down to ground using 100k resistor.(1)", 5 HOST_SPI_CLK (in) "Host interface SPI clock", 6 HOST_SPI_MOSI (in) "Host interface SPI data input", 7 HOST_SPI_MISO "Host interface SPI data output", 8 HOST_SPI_nCS (in) "Host interface SPI chip selec", 9 VDD_DIG1 (power) "Digital core supply", 10 VIN_IO1 (power) "I/O supply", 11 FLASH_SPI_CLK (in) "Serial flash interface: SPI clock", 12 FLASH_SPI_MOSI "Serial flash interface: SPI data out", 13 FLASH _SPI_MISO (in) "Serial flash interface: SPI data in", 14 FLASH _SPI_nCS "Serial flash interface: SPI chip select (active low)", 15 HOST_INTR (hiz) "Interrupt output (active high)", 16 NC "Unused; leave unconnected.", 17 NC "Unused; leave unconnected.", 18 NC "Unused; leave unconnected.", 19 RESERVED "Connect 100K pull-down to ground.", 20 NC "Unused; leave unconnected.", 21 SOP2/TCXO_EN "Enable signal for external TCXO. Add 10k pulldown to ground.", 22 WLAN_XTAL_N "Connect the WLAN 40-MHz XTAL here.", 23 WLAN_XTAL_P "Connect the WLAN 40-MHz XTAL here.", 24 VDD_PLL (power) "Internal PLL power supply (1.4 V nominal)", 25 LDO_IN2 (power) "Input to internal LDO", 26 NC "Unused; leave unconnected.", 27 NC "Unused; leave unconnected.", 28 NC "Unused; leave unconnected.", 29 RESERVED "Reserved for future use", 30 RESERVED "Reserved for future use", 31 RF_BG "2.4-GHz RF TX/RX", 32 nRESET (in) "RESET input for the device. Active low input. Use RC circuit (100k || 0.1 uF) for power on reset.", 33 VDD_PA_IN (power) "Power supply for the RF power amplifier (PA)", 34 SOP1 "Add 100K pulldown to ground.", 35 SOP0 "Add 100K pulldown to ground.", 36 LDO_IN1 (power) "Input to internal LDO", 37 VIN_DCDC_ANA (power) "Power supply for the DC-DC converter for analog section", 38 DCDC_ANA_SW (power) "Analog DC-DC converter switch output", 39 VIN_DCDC_PA (power) "PA DC-DC converter input supply", 40 DCDC_PA_SW_P (power) "PA DC-DC converter switch output +ve", 41 DCDC_PA_SW_N (power) "PA DC-DC converter switch output -ve", 42 DCDC_PA_OUT (power) "PA DC-DC converter output. Connect the output capacitor for DC-DC here.", 43 DCDC_DIG_SW (power) "Digital DC-DC converter switch output", 44 VIN_DCDC_DIG (power) "Power supply input for the digital DC-DC converter", 45 DCDC_ANA2_SW_P (power) "Analog2 DC-DC converter switch output +ve", 46 DCDC_ANA2_SW_N (power) "Analog2 DC-DC converter switch output -ve", 47 VDD_ANA2 (power) "Analog2 power supply input", 48 VDD_ANA1 (power) "Analog1 power supply input", 49 VDD_RAM (power) "Power supply for the internal RAM", 50 UART1_nRTS "UART host interface", 51 RTC_XTAL_P "32.768 kHz XTAL_P/external CMOS level clock input", 52 RTC_XTAL_N "32.768 kHz XTAL_N/100k external pullup for external clock", 53 NC "Unused. Leave unconnected.", 54 VIN_IO2 (power) "I/O power supply. Same as battery voltage.", 55 UART1_TX "UART host interface. Connect to test point on prototype for flash programming.", 56 VDD_DIG2 (power) "Digital power supply (1.2 V)", 57 UART1_RX (in) "UART host interface. Connect to test point on prototype for flash programming.", 58 TEST_58 "Test signal. Connect to an external test point", 59 TEST_59 "Test signal. Connect to an external test point.", 60 TEST_60 "Test signal. Connect to an external test point.", 61 UART1_nCTS (in) "UART host interface", 62 TEST_62 "Test signal. Connect to an external test point.", 63 NC "Leave unconnected", 64 NC "Leave unconnected", 65 GND (power) "Ground tab used as thermal and electrical ground"

## CMP-020-00008-3
designator U?, comment CC3200R1M2RGC
SimpleLink Wi-Fi and Internet-of-Things Solution, A Single-Chip Wireless MCU, 2.1 to 3.6 V, -40 to 85 degC, 64-Pin PQFN (RGC64), Green (RoHS & no Sb/Br), Tray; Manufacturer: Texas Instruments; RAM Size: 256KB; Min Operating Temperature: -40°C; Manufacturer URL: http://www.ti.com/; RoHS Compliant: True; Datasheet URL: http://www.ti.com/lit/ds/symlink/cc3200.pdf; Max Operating Temperature: 85°C; Package URL: http://www.ti.com/lit/ml/mpqf125e/mpqf125e.pdf; Case/Package: RGC64; Package Reference: RGC64; Datasheet Version: SWAS032F, 02/2015; Packaging: Tray
footprint TI-RGC64-7300x7300TP_N (QFN, 64-Leads, Body 9.15x9.15mm, Pitch 0.50mm, Thermal Pad 7.30x7.30mm, IPC Medium Density)
footprint TI-RGC64-7300x7300TP_M (QFN, 64-Leads, Body 9.15x9.15mm, Pitch 0.50mm, Thermal Pad 7.30x7.30mm, IPC Low Density)
footprint TI-RGC64-7300x7300TP_L (QFN, 64-Leads, Body 9.15x9.15mm, Pitch 0.50mm, Thermal Pad 7.30x7.30mm, IPC High Density)
pins: 1 GPIO10 (io) "General-Purpose  I/O", 2 GPIO11 (io) "General-Purpose  I/O", 3 GPIO12 (io) "General Purpose  I/O", 4 GPIO13 (io) "General Purpose  I/O", 5 GPIO14 (io) "General Purpose  I/O", 6 GPIO15 (io) "General Purpose  I/O", 7 GPIO16 (io) "General Purpose  I/O", 8 GPIO17 (io) "General Purpose  I/O", 9 VDD_DIG1 (power) "Internal Digital Core Voltage", 10 VIN_IO1 (power) "Chip Supply  Voltage (VBAT)", 11 FLASH_SPI_CLK (hiz) "Clock To SPI  Serial Flash  (Fixed Default)", 12 FLASH_SPI_DOUT (hiz) "Data To SPI  Serial Flash  (Fixed Default)", 13 FLASH_SPI_DIN (in) "Data From SPI  Serial Flash  (Fixed Default)", 14 FLASH_SPI_CS (hiz) "Chip Select To  SPI Serial Flash  (Fixed Default)", 15 GPIO22 (io) "General Purpose  I/O", 16 TDI (in) "JTAG TDI. Reset  Default Pinout.", 17 TDO (hiz) "JTAG TDO.  Reset Default  Pinout.", 18 GPIO28 (io) "General Purpose  I/O", 19 TCK (in) "JTAG/SWD TCK  Reset Default  Pinout", 20 TMS (in) "JATG/SWD TMS  Reset Default  Pinout", 21 SOP2 (out) "Sense-On-Power  2", 22 WLAN_XTAL_N "40-MHz XTAL  Pulldown if ext TCXO is used.", 23 WLAN_XTAL_P "40-MHz XTAL or  TCXO clock input", 24 VDD_PLL (power) "Internal analog voltage", 25 LDO_IN2 (power) "Analog RF  supply from ANA  DC-DC output", 26 NC "Reserved", 27 NC "Reserved", 28 NC "Reserved", 29 ANTSEL1 (hiz) "Antenna  Selection Control", 30 ANTSEL2 (hiz) "Antenna  Selection Control", 31 RF_BG "RF BG band", 32 nRESET (in) "Master chip  reset. Active low.", 33 VDD_PA_IN (power) "PA supply  voltage from PA  DC-DC output.", 34 SOP1 "Sense On Power  1", 35 SOP0 "Sense On Power  0", 36 LDO_IN1 (power) "Analog RF  supply from ana DC-DC output", 37 VIN_DCDC_ANA (power) "Analog DC-DC  input (connected  to chip input  supply [VBAT])", 38 DCDC_ANA_SW (power) "Analog DC-DC  switching node.", 39 VIN_DCDC_PA (power) "PA DC-DC input  (connected to  chip input supply  [VBAT])", 40 DCDC_PA_SW_P (power) "PA DCDC  switching node", 41 DCDC_PA_SW_N (power) "PA DCDC  switching node", 42 DCDC_PA_OUT (power) "PA buck  converter output", 43 DCDC_DIG_SW (power) "DIG DC-DC  switching node", 44 VIN_DCDC_DIG (power) "DIG DC-DC input  (connected to  chip input supply  [VBAT])", 45 DCDC_ANA2_SW_P "ANA2 DCDC  Converter +ve  Switching Node.", 46 DCDC_ANA2_SW_N "ANA2 DCDC  Converter -ve Switching Node.", 47 VDD_ANA2 (power) "ANA2 DCDC O", 48 VDD_ANA1 (power) "Analog supply  fed by ANA2 DCDC output", 49 VDD_RAM (power) "SRAM LDO  output", 50 GPIO0 (io) "General-Purpose  I/O", 51 RTC_XTAL_P (in) "Connect 32.768-  kHz XTAL or  Froce external CMOS level  clock", 52 RTC_XTAL_N "Connect 32.768-  kHz XTAL or connect a 100 kohm  to Vsupply.", 53 GPIO30 (io) "General-Purpose  I/O", 54 VIN_IO2 (power) "Chip Supply  Voltage (VBAT)", 55 GPIO1 (io) "General-Purpose  I/O", 56 VDD_DIG2 (power) "Internal Digital  Core Voltage", 57 GPIO2 (io) "General-Purpose  I/O", 58 GPIO3 (io) "General-Purpose  I/O", 59 GPIO4 (io) "General-Purpose  I/O", 60 GPIO5 (io) "General-Purpose  I/O", 61 GPIO6 (io) "General-Purpose  I/O", 62 GPIO7 (io) "General-Purpose  I/O", 63 GPIO8 (io) "General-Purpose  I/O", 64 GPIO9 (io) "General-Purpose  I/O", 65 GND_TAB (power) "Thermal pad and  electrical ground"

## CMP-020-00009-3
designator U?, comment LPC1768FBD100,551
32-Bit ARM Cortex-M3 Microcontroller, Ethernet, USB 2.0 Host/Device/OTG, CAN, 512 KB Flash, 64 KB SRAM, -40 to 85 degC, 100-Pin LQFP (SOT407-1), RoHS, Tray; Manufacturer: NXP; Density: 512KB; PWM Channels: 7; I/Os: 70; Frequency: 100MHz; Power: 1.5W; RAM Size: 64KB; Min Supply Voltage: 2.4V; UART Channels: 4; Max Supply Voltage: 3.6V; Nominal Supply Voltage: 3.3V; ADC Channels: 8; Ethernet Channels: 1; Interface: UART; Package Reference: SOT407-1; Datasheet URL: http://www.nxp.com/documents/data_sheet/LPC1769_68_67_66_65_64_63.pdf; Case/Package: LQFP; RoHS Compliant: True; Package Quantity: 90; Max Clock Frequency: 100MHz; Package URL: http://www.nxp.com/documents/; Pins: 100; Package Description: 100-Pin Plastic Low Profile Quad Flat Package, Body 14 x 14 mm; Mounting Technology: SM; Datasheet Version: Rev. 9.6 , 08/2015; Manufacturer URL: http://www.nxp.com/; Min Operating Temperature: -40°C; Max Operating Temperature: 85°C; Packaging: Tray
footprint NXP-SOT407-1_V (QFP, 100-Leads, Body 14x14mm)
part A pins: 1 TDO/SWO (out), 2 TDI (in), 3 TMS/SWDIO (io), 4 ~{TRST} (in), 5 TCK/SWDCLK (in), 6 P0[26]/AD0[3]/AOUT/RXD3 (io), 7 P0[25]/AD0[2]/I2SRX_SDA/TXD3 (io), 8 P0[24]/AD0[1]/I2SRX_WS/CAP3[1] (io), 9 P0[23]/AD0[0]/I2SRX_CLK/CAP3[0] (io), 12 VREFP, 13 NC, 14 ~{RSTOUT} (out), 15 VREFN, 16 RTCX1 (in), 17 ~{RESET} (in), 18 RTCX2 (out), 20 P1[31]/SCK1/AD0[5] (io), 21 P1[30]/VBUS/AD0[4] (io), 22 XTAL1, 23 XTAL2, 24 P0[28]/SCL0/USB_SCL (io), 25 P0[27]/SDA0/USB_SDA (io), 26 P3[26]/STCLK/MAT0[1]/PWM1[3] (io), 27 P3[25]/MAT0[0]/PWM1[2] (io), 29 P0[29]/USB_D+ (io), 30 P0[30]/USB_D- (io), 32 P1[18]/USB_UP_LED/PWM1[1]/CAP1[0] (io), 33 P1[19]/MCOA0/~{USB_PPWR}/CAP1[1] (io), 34 P1[20]/MCI0/PWM1[2]/SCK0 (io), 35 P1[21]/~{MCABORT}/PWM1[3]/SSEL0 (io), 36 P1[22]/MCOB0/USB_PWRD/MAT1[0] (io), 37 P1[23]/MCI1/PWM1[4]/MISO0 (io), 38 P1[24]/MCI2/PWM1[5]/MOSI0 (io), 39 P1[25]/MCOA1/MAT1[1] (io), 40 P1[26]/MCOB1/PWM1[6]/CAP0[0] (io), 43 P1[27]/CLKOUT/~{USB_OVRCR}/CAP0[1] (io), 44 P1[28]/MCOA2/PCAP1[0]/MAT0[0] (io), 45 P1[29]/MCOB2/PCAP1[1]/MAT0[1] (io), 46 P0[0]/RD1/TXD3/SDA1 (io), 47 P0[1]/TD1/RXD3/SCL1 (io), 48 P0[10]/TXD2/SDA2/MAT3[0] (io), 49 P0[11]/RXD2/SCL2/MAT3[1] (io), 50 P2[13]/~{EINT3}/I2STX_SDA (io), 51 P2[12]/~{EINT2}/I2STX_WS (io), 52 P2[11]/~{EINT1}/I2STX_CLK (io), 53 P2[10]/~{EINT0}/NMI (io), 56 P0[22]/RTS1/TD1 (io), 57 P0[21]/RI1/RD1 (io), 58 P0[20]/DTR1/SCL1 (io), 59 P0[19]/DSR1/SDA1 (io), 60 P0[18]/DCD1/MOSI0/MOSI (io), 61 P0[17]/CTS1/MISO0/MISO (io), 62 P0[15]/TXD1/SCK0/SCK (io), 63 P0[16]/RXD1/SSEL0/SSEL (io), 64 P2[9]/USB_CONNECT/RXD2 (io), 65 P2[8]/TD2/TXD2 (io), 66 P2[7]/RD2/RTS1 (io), 67 P2[6]/PCAP1[0]/RI1/TRACECLK (io), 68 P2[5]/PWM1[6]/DTR1/TRACEDATA[0] (io), 69 P2[4]/PWM1[5]/DSR1/TRACEDATA[1] (io), 70 P2[3]/PWM1[4]/DCD1/TRACEDATA[2] (io), 73 P2[2]/PWM1[3]/CTS1/TRACEDATA[3] (io), 74 P2[1]/PWM1[2]/RXD1 (io), 75 P2[0]/PWM1[1]/TXD1 (io), 76 P0[9]/I2STX_SDA/MOSI1/MAT2[3] (io), 77 P0[8]/I2STX_WS/MISO1/MAT2[2] (io), 78 P0[7]/I2STX_CLK/SCK1/MAT2[1] (io), 79 P0[6]/I2SRX_SDA/SSEL1/MAT2[0] (io), 80 P0[5]/I2SRX_WS/TD2/CAP2[1] (io), 81 P0[4]/I2SRX_CLK/RD2/CAP2[0] (io), 82 P4[28]/RX_MCLK/MAT2[0]/TXD3 (io), 85 P4[29]/TX_MCLK/MAT2[1]/RXD3 (io), 86 P1[17]/ENET_MDIO (io), 87 P1[16]/ENET_MDC (io), 88 P1[15]/ENET_REF_CLK (io), 89 P1[14]/ENET_RX_ER (io), 90 P1[10]/ENET_RXD1 (io), 91 P1[9]/ENET_RXD0 (io), 92 P1[8]/ENET_CRS (io), 93 P1[4]/ENET_TX_EN (io), 94 P1[1]/ENET_TXD1 (io), 95 P1[0]/ENET_TXD0 (io), 98 P0[2]/TXD0/AD0[7] (io), 99 P0[3]/RXD0/AD0[6] (io), 100 RTCK (out)
part B pins: 10 VDDA (power), 11 VSSA (power), 19 VBAT (power), 28 VDD(3V3) (power), 31 VSS (power), 41 VSS (power), 42 VDD(REG)(3V3) (power), 54 VDD(3V3) (power), 55 VSS (power), 71 VDD(3V3) (power), 72 VSS (power), 83 VSS (power), 84 VDD(REG)(3V3) (power), 96 VDD(3V3) (power), 97 VSS (power)

## CMP-020-00010-3
designator U?, comment MK22FN1M0VLH12
Kinetis K22F Sub-Family, 120 MHz ARM(R) Cortex(R)-M4-based Microcontroller with FPU, 1.71 to 3.6 V, -40 to 105 degC, 64-Pin LQFP, RoHS, Tray; Manufacturer: Freescale; Max Supply Voltage: 3.6V; Density: 1MB; Package Version: Rev. G, 01/2016; RAM Size: 128KB; Max Clock Frequency: 120MHz; Interface: UART; Min Supply Voltage: 1.71V; Datasheet Version: Rev. 4, 11/2014; Package Quantity: 160; Package Reference: LQFP-64; Package Description: 64-Pin Low-profile Quad Flat Package, Body 10 x 10 mm, Pitch 0.5 mm; Mounting Technology: SM; Max Operating Temperature: 105°C; Datasheet URL: http://cache.nxp.com/files/32bit/doc/data_sheet/K22P64M120SF5.pdf; Min Operating Temperature: -40°C; RoHS Compliant: True; Case/Package: LQFP; Packaging: Tray; Package URL: http://cache.nxp.com/files/shared/doc/package_info/98ASS23234W.pdf?fsrch=1&sr=1&pageNum=1; Manufacturer URL: http://www.nxp.com/; Pins: 64
footprint FREE-LQFP-64_M (TSQFP, 64-Leads, Body 10.00x10.00mm, Pitch 0.50mm, IPC Low Density)
footprint FREE-LQFP-64_N (TSQFP, 64-Leads, Body 10.00x10.00mm, Pitch 0.50mm, IPC Medium Density)
footprint FREE-LQFP-64_L (TSQFP, 64-Leads, Body 10.00x10.00mm, Pitch 0.50mm, IPC High Density)
part A pins: 1 PTE0 (io) "ADC1_SE4A/UART1_TX/TRACE_CLKOUT/I2C1_SDA/RTC_CLKOUT", 2 PTE1 (io) "LLWU_P0/ADC1_SE5A/UART1_RX/TRACE_D3/I2C1_SCL", 22 PTA0 (io) "UART0_CTS_B/FTM0_CH5/JTAG_TCLK/SWD_CLK/EZP_CLK", 23 PTA1 (io) "UART0_RX/FTM0_CH6/JTAG_TDI/EZP_DI", 24 PTA2 (io) "UART0_TX/FTM0_CH7/JTAG_TDO/TRACE_SWO/EZP_DO", 25 PTA3 (io) "UART0_RTS_B/FTM0_CH0/JTAG_TMS/SWD_DIO", 26 PTA4 (io) "LLWU_P3/FTM0_CH1/NMI_B/EZP_CS_B", 27 PTA5 (io) "USB_CLKIN/FTM0_CH2/CMP2_OUT/2S0_TX_BCLK/JTAG_TRST_B", 28 PTA12 (io) "CMP2_IN0/CAN0_TX/FTM1_CH0/I2C2_SCL/I2S0_TXD0/FTM1_QD_PHA", 29 PTA13 (io) "LLWU_P4/CMP2_IN1/CAN0_RX/FTM1_CH1/I2C2_SDA/I2S0_TX_FS/FTM1_QD_PHB", 32 PTA18 (io) "EXTAL0/FTM0_FLT2/FTM_CLKIN0", 33 PTA19 (io) "XTAL0/FTM1_FLT0/FTM_CLKIN1/LPTMR0_ALT1", 35 PTB0 (io) "LLWU_P5/ADC0_SE8/ADC1_SE8/I2C0_SCL/FTM1_CH0/FTM1_QD_PHA", 36 PTB1 (io) "ADC0_SE9/ADC1_SE9/PTB1/I2C0_SDA/FTM1_CH1/FTM1_QD_PHB", 37 PTB2 (io) "ADC0_SE12/I2C0_SCL/UART0_RTS_B/FTM0_FLT3", 38 PTB3 (io) "ADC0_SE13/I2C0_SDA/UART0_CTS_B/FTM0_FLT0", 39 PTB16 (io) "UART0_RX/FTM_CLKIN0/FB_AD17/EWM_IN", 40 PTB17 (io) "UART0_TX/FTM_CLKIN1/FB_AD16/EWM_OUT_B", 41 PTB18 (io) "CAN0_TX/FTM2_CH0/I2S0_TX_BCLK/FB_AD15/FTM2_QD_PHA", 42 PTB19 (io) "CAN0_RX/FTM2_CH1/I2S0_TX_FS/FB_OE_B/FTM2_QD_PHB", 43 PTC0 (io) "ADC0_SE14/SPI0_PCS4/PDB0_EXTRG/FB_AD14/I2S0_TXD1", 44 PTC1 (io) "LLWU_P6/ADC0_SE15/SPI0_PCS3/UART1_RTS_B/ FTM0_CH0/FB_AD13/I2S0_TXD0", 45 PTC2 (io) "ADC0_SE4B/CMP1_IN0/SPI0_PCS2/UART1_CTS_B/FTM0_CH1/FB_AD12/I2S0_TX_FS", 46 PTC3 (io) "LLWU_P7/CMP1_IN1/SPI0_PCS1/UART1_RX/FTM0_CH2/CLKOUT/I2S0_TX_BCLK", 49 PTC4 (io) "LLWU_P8/SPI0_PCS0/UART1_TX/FTM0_CH3/FB_AD11/CMP1_OUT", 50 PTC5 (io) "LLWU_P9/SPI0_SCK/LPTMR0_ALT2/I2S0_RXD0/FB_AD10/CMP0_OUT/FTM0_CH2", 51 PTC6 (io) "LLWU_P10/CMP0_IN0/SPI0_SOUT/PDB0_EXTRG/I2S0_RX_BCLK/FB_AD9/I2S0_MCLK", 52 PTC7 (io) "CMP0_IN1/SPI0_SIN/USB_SOF_OUT/I2S0_RX_FS/FB_AD8", 53 PTC8 (io) "ADC1_SE4B/CMP0_IN2/FTM3_CH4/I2S0_MCLK/FB_AD7", 54 PTC9 (io) "ADC1_SE5B/CMP0_IN3/FTM3_CH5/I2S0_RX_BCLK/FB_AD6/FTM2_FLT0", 55 PTC10 (io) "ADC1_SE6B/I2C1_SCL/FTM3_CH6/I2S0_RX_FS/FB_AD5", 56 PTC11 (io) "LLWU_P11/ADC1_SE7B/I2C1_SDA/FTM3_CH7/I2S0_RXD1/FB_RW_B", 57 PTD0 (io) "LLWU_P12/SPI0_PCS0/UART2_RTS_B/FTM3_CH0/FB_ALE/FB_CS1_B/FB_TS_B", 58 PTD1 (io) "ADC0_SE5B/SPI0_SCK/UART2_CTS_B/FTM3_CH1/FB_CS0_B", 59 PTD2 (io) "LLWU_P13/SPI0_SOUT/UART2_RX/FTM3_CH2/FB_AD4/I2C0_SCL", 60 PTD3 (io) "SPI0_SIN/UART2_TX/FTM3_CH3/FB_AD3/I2C0_SDA", 61 PTD4 (io) "LLWU_P14/SPI0_PCS1/UART0_RTS_B/FTM0_CH4/FB_AD2/EWM_IN", 62 PTD5 (io) "ADC0_SE6B/SPI0_PCS2/UART0_CTS_ B/FTM0_CH5/FB_AD1/EWM_OUT_B", 63 PTD6 (io) "LLWU_P15/ADC0_SE7B/SPI0_PCS3/UART0_RX/FTM0_CH6/FB_AD0/FTM0_FLT0", 64 PTD7 (io) "CMT_IRO/UART0_TX/FTM0_CH7/FTM0_FLT1"
part B pins: 5 USB0_DP (io), 6 USB0_DM (io), 9 ADC0_DP0/ADC1_DP3 (io), 10 ADC0_DM0/ADC1_DM3 (io), 11 ADC1_DP0/ADC0_DP3 (io), 12 ADC1_DM0/ADC0_DM3 (io), 17 VREF_OUT/CMP1_IN5/CMP0_IN5/ADC1_SE18 (io), 18 DAC0_OUT/CMP1_IN3/ADC0_SE23 (io), 19 XTAL32, 20 EXTAL32, 34 RESET_B (in)
part C pins: 3 VDD (power) "Digital supply voltage", 4 VSS (power), 7 VOUT33 (power), 8 VREGIN (power) "Input supply voltage", 13 VDDA (power) "Analog supply voltage", 14 VREFH (power) "ADC reference  voltage high", 15 VREFL (power) "ADC reference  voltage low", 16 VSSA (power), 21 VBAT (power) "RTC battery supply voltage", 30 VDD (power) "Digital supply voltage", 31 VSS (power), 47 VSS (power), 48 VDD (power) "Digital supply voltage"

## CMP-020-00011-3
designator U?, comment MKL25Z128VLH4
48 MHz Cortex-M0+ Based Microcontroller with USB, 1.71 to 3.6 V, -40 to 105 degC, 64-Pin LQFP, RoHS, Tray; Manufacturer: Freescale; I/Os: 50; Package Version: Rev. G, 01/2016; Frequency: 48MHz; Max Supply Voltage: 3.6V; Density: 128KB; ADC Channels: 14; Min Supply Voltage: 1.71V; PWM Channels: 6; Interface: UART; RAM Size: 16KB; Package Description: 64-Pin Low-profile Quad Flat Package, Body 10 x 10 mm, Pitch 0.5 mm; Package Quantity: 160; RoHS Compliant: True; Package Reference: LQFP-64; Min Operating Temperature: -40°C; Package URL: http://cache.nxp.com/files/shared/doc/package_info/98ASS23234W.pdf?fsrch=1&sr=1&pageNum=1; Packaging: Tray; Max Operating Temperature: 105°C; Pins: 64; Max Clock Frequency: 48MHz; Manufacturer URL: http://www.nxp.com/; Case/Package: LQFP; Datasheet URL: http://cache.freescale.com/files/32bit/doc/data_sheet/KL25P80M48SF0.pdf; Datasheet Version: Rev. 5, 08/2014; Mounting Technology: SM
footprint FREE-LQFP-64_M (TSQFP, 64-Leads, Body 10.00x10.00mm, Pitch 0.50mm, IPC Low Density)
footprint FREE-LQFP-64_N (TSQFP, 64-Leads, Body 10.00x10.00mm, Pitch 0.50mm, IPC Medium Density)
footprint FREE-LQFP-64_L (TSQFP, 64-Leads, Body 10.00x10.00mm, Pitch 0.50mm, IPC High Density)
part A pins: 1 PTE0 (io) "UART1_TX/RTC_CLKOUT/CMP0_OUT/I2C1_SDA", 2 PTE1 (io) "SPI1_MOSI/UART1_RX/SPI1_MISO/I2C1_SCL", 5 USB0_DP (io), 6 USB0_DM (io), 9 PTE20 (io) "ADC0_DP0/ADC0_SE0/TPM1_CH0/UART_TX", 10 PTE21 (io) "ADC0_DM0/ADC_SE4A/TPM1_CH1/UART0_RX", 11 PTE22 (io) "ADC0_DP3/ADC0_SE3/TPM2_CH0/UART2_TX", 12 PTE23 (io) "ADC0_DP3/ADC0_SE7A/TPM2_CH1/UART_RX", 17 PTE29 (io) "CMP0_IN5/ADC0_SE4B/TPM0_CH2/TPM_CLKIN0", 18 PTE30 (io) "DAC0_OUT/ADC0_SE23/CMP0_IN4/TPM0_CH3/TPM_CLKIN1", 19 PTE31 (io) "TPM0_CH4", 20 PTE24 (io) "TPM0_CH0/I2C0_SCL", 21 PTE25 (io) "TPM0_CH1/I2C0_SDA", 22 PTA0 (io) "TSI0_CH1/TPM0_CH5/SWD_CLK", 23 PTA1 (io) "TSI0_CH2/UART0_RX/TPM2_CH0", 24 PTA2 (io) "TSI0_CH3/UART0_TX/TPM2_CH1", 25 PTA3 (io) "TSI0_CH4/I2C1_SCL/TPM0_CH0/SWD_DIO", 26 PTA4 (in) "TSI0_CH5/I2C1_SDA/TPM0_CH1/NMI_B", 27 PTA5 (io) "USB_CLKIN/TPM0_CH2", 28 PTA12 (io) "TPM1_CH0", 29 PTA13 (io) "TPM1_CH1", 32 PTA18 (io) "EXTAL0/UART1_RX/TPM_CLKIN0", 33 PTA19 (io) "XTAL0/UART1_TX/TPM_CLKIN1/LPTMR0_ALT1", 34 PTA20 (io) "RESET_B", 35 PTB0 (io) "LLWU_P5/ADC0_SE8/TSI0_CH0/I2C0_SCL/TPM1_CH0", 36 PTB1 (io) "ADC0_SE9/TSI0_CH6/I2C0_SDA/TPM1_CH1", 37 PTB2 (io) "ADC0_SE12/TSI0_CH7/I2C0_SCL/TPM2_CH0", 38 PTB3 (io) "ADC0_SE13/TSI0_CH8/I2C0_SDA/TPM2_CH1", 39 PTB16 (io) "TSI0_CH9/SPI1_MOSI/UART0_RX/TPM_CLKIN0/SPI1_MISO", 40 PTB17 (io) "TSI0_CH10/SPI1_MISO/UART0_TX/TPM_CLKIN1/SPI1_MOSI", 41 PTB18 (io) "TSI0_CH11/TPM2_CH0", 42 PTB19 (io) "TSI0_CH12/TPM2_CH1", 43 PTC0 (io) "ADC0_SE14/TSI0_CH13/EXTRG_IN/CMP0_OUT", 44 PTC1 (io) "LLWU_P6/RTC_CLKIN/ADC0_SE15/TSI0_CH14/I2C1_SCL/TPM0_CH0", 45 PTC2 (io) "ADC0_SE11/TSI0_CH15/I2C1_SDA/TPM0_CH1", 46 PTC3 (io) "LLWU_P7/UART1_RX/TPM0_CH2/CLKOUT", 49 PTC4 (io) "LLWU_P8/SPI0_PCS0/UART1_TX/TPM0_CH3", 50 PTC5 (io) "LLWU_P9/SPI0_SCK/LPTMR0_ALT2/CMP0_OUT", 51 PTC6 (io) "LLWU_P10/CMP0_IN0/SPI0_MOSI/EXTRG_IN/SPI0_MISO", 52 PTC7 (io) "CMP0_IN1/SPI0_MISO/SPI0_MOSI", 53 PTC8 (io) "CMP0_IN2/I2C0_SCL/TPM0_CH4", 54 PTC9 (io) "CMP0_IN3/I2C0_SDA/TPM0_CH5", 55 PTC10 (io) "I2C1_SCL", 56 PTC11 (io) "I2C1_SDA", 57 PTD0 (io) "SPI0_PCS0/TPM0_CH0", 58 PTD1 (io) "ADC0_SE5B/PTD1/SPI0_SCK/TPM0_CH1", 59 PTD2 (io) "SPI0_MOSI/UART2_RX/TPM0_CH2/SPI0_MISO", 60 PTD3 (io) "SPI0_MISO/UART2_TX/TPM0_CH3/SPI0_MOSI", 61 PTD4 (io) "LLWU_P14/SPI1_PCS0/UART2_RX/TPM0_CH4", 62 PTD5 (io) "ADC0_SE6B/SPI1_SCK/UART2_TX/TPM0_CH5", 63 PTD6 (io) "LLWU_P15/ADC0_SE7B/SPI1_MOSI/UART0_RX/SPI1_MISO", 64 PTD7 (io) "SPI1_MISO/UART0_TX/SPI1_MOSI"
part B pins: 3 VDD (power) "Digital supply voltage", 4 VSS (power), 7 VOUT33 (power), 8 VREGIN (power) "USB regulator input", 13 VDDA (power) "Analog supply voltage", 14 VREFH (power) "ADC reference  voltage high", 15 VREFL (power) "ADC reference  voltage low", 16 VSSA (power), 30 VDD (power) "Digital supply voltage", 31 VSS (power), 47 VSS (power), 48 VDD (power) "Digital supply voltage"

## CMP-020-00012-3
designator U?, comment STM32F401RBT6
ARM Cortex -M4 32b MCU+FPU, 256 KB Flash, 64 KB RAM, -40 to 85 degC, 64-Pin LQFP, RoHS, Tray; Manufacturer: STMicroelectronics; Frequency: 84MHz; Interface: USART; Power: 313mW; Max Supply Voltage: 3.6V; RAM Size: 64KB; I/Os: 50; Density: 128KB; Min Supply Voltage: 1.8V; Datasheet URL: http://www.st.com/st-web-ui/static/active/en/resource/technical/document/datasheet/DM00086815.pdf; Package Quantity: 160; Package Description: 64-Pin Low-profile Quad Flat Package, Body 10 x 10 mm, Pitch 0.5 mm; Packaging: Tray; Case/Package: LQFP; Pins: 64; Mounting Technology: SM; RoHS Compliant: True; Datasheet Version: Rev. 5, 08/2015; Manufacturer URL: http://www.st.com/; Package Reference: LQFP64
footprint STM-LQFP64_L (Thin QFP, 64-Leads, Body 10x10mm, Pitch 0.5mm, IPC High Density)
footprint STM-LQFP64_M (Thin QFP, 64-Leads, Body 10x10mm, Pitch 0.5mm, IPC Low Density)
footprint STM-LQFP64_N (Thin QFP, 64-Leads, Body 10x10mm, Pitch 0.5mm, IPC Medium Density)
part A pins: 2 PC13-ANTI_TAMP (io) "PC13-ANTI_TAMP/TAMP_1", 3 PC14-OSC32_IN (io) "PC14-OSC32_IN/OSC32_IN", 4 PC15-OSC32_OUT (io) "PC15-OSC32_OUT/OSC32_OUT", 5 PH0-OSC_IN (io) "PH0-OSC_IN/OSC_IN", 6 PH1-OSC_OUT (io) "PH1-OSC_OUT/OSC_OUT", 7 NRST (io), 8 PC0 (io) "PC0/ADC1_10", 9 PC1 (io) "PC1/ADC1_11", 10 PC2 (io) "PC2/SPI2_MISO,I2S2ext_SD/ADC1_12", 11 PC3 (io) "PC3/SPI2_MOSI/I2S2_SD/ADC1_13", 14 PA0-WKUP (io) "PA0-WKUP/USART2_CTS,TIM2_CH1/TIM2_ETR,TIM5_CH1/ADC1_0,WKUP", 15 PA1 (io) "PA1/USART2_RTS,TIM2_CH2,TIM5_CH2/ADC1_1", 16 PA2 (io) "PA2/USART2_TX,TIM2_CH3,TIM5_CH3,TIM9_CH1/ADC1_2", 17 PA3 (io) "PA3/USART2_RX,TIM2_CH4,TIM5_CH4,TIM9_CH2/ADC1_3", 20 PA4 (io) "PA4/SPI1_NSS,SPI3_NSS/I2S3_WS,USART2_CK/ADC1_4", 21 PA5 (io) "PA5/SPI1_SCK,TIM2_CH1/TIM2_ETR/ADC1_5", 22 PA6 (io) "PA6/SPI1_MISO,TIM1_BKIN,TIM3_CH1/ADC1_6", 23 PA7 (io) "PA7/SPI1_MOSI,TIM1_CH1N,TIM3_CH2/ADC1_7", 24 PC4 (io) "PC4/ADC1_14", 25 PC5 (io) "PC5/ADC1_15", 26 PB0 (io) "PB0/TIM1_CH2N,TIM3_CH3/ADC1_8", 27 PB1 (io) "PB1/TIM1_CH3N,TIM3_CH4/ADC1_9", 28 PB2 (io), 29 PB10 (io) "PB10/SPI2_SCK/I2S2_CK,I2C2_SCL,TIM2_CH3", 30 VCAP1 (power), 33 PB12 (io) "PB12/SPI2_NSS/I2S2_WS,I2C2_SMBAL,TIM1_BKIN", 34 PB13 (io) "PB13/SPI2_SCK/I2S2_CK,TIM1_CH1N", 35 PB14 (io) "PB14/SPI2_MISO,I2S2ext_SD,TIM1_CH2N", 36 PB15 (io) "PB15/SPI2_MOSI/I2S2_SD,TIM1_CH3N,RTC_50Hz", 37 PC6 (io) "PC6/I2S2_MCK,USART6_TX,TIM3_CH1,SDIO_D6", 38 PC7 (io) "PC7/I2S3_MCK,USART6_RX,TIM3_CH2,SDIO_D7", 39 PC8 (io) "PC8/USART6_CK,TIM3_CH3,SDIO_D0", 40 PC9 (io) "PC9/I2S2_CKIN,I2C3_SDA,TIM3_CH4,SDIO_D1,MCO_2", 41 PA8 (io) "PA8/I2C3_SCL,USART1_CK,TIM1_CH1,USB_FS_SOF,MCO_1", 42 PA9 (io) "PA9/I2C3_SMBAL,USART1_TX,TIM1_CH2,USB_FS_VBUS", 43 PA10 (io) "PA10/USART1_RX,TIM1_CH3,USB_FS_ID", 44 PA11 (io) "PA11/USART1_CTS,USART6_TX,TIM1_CH4,USB_FS_DM", 45 PA12 (io) "PA12/USART1_RTS,USART6_RX,TIM1_ETR,USB_FS_DP", 46 PA13 (io) "PA13/JTMS-SWDIO", 49 PA14 (io) "PA14/JTCK-SWCLK", 50 PA15 (io) "PA15/SPI1_NSS,SPI3_NSS/I2S3_WS,TIM2_CH1/TIM2_ETR,JTDI", 51 PC10 (io) "PC10/SPI3_SCK/I2S3_CK,SDIO_D2", 52 PC11 (io) "PC11/I2S3ext_SD,SPI3_MISO,SDIO_D3", 53 PC12 (io) "PC12/SPI3_MOSI/I2S3_SD,SDIO_CK", 54 PD2 (io) "PD2/TIM3_ETR,SDIO_CMD", 55 PB3 (io) "PB3/SPI1_SCK,SPI3_SCK/I2S3_CK,I2C2_SDA,TIM2_CH2,JTDO-SWO", 56 PB4 (io) "PB4/SPI1_MISO,SPI3_MISO,I2S3ext_SD,I2C3_SDA,TIM3_CH1,JTRST", 57 PB5 (io) "PB5/SPI1_MOSI,SPI3_MOSI/I2S3_SD,I2C1_SMBAL,TIM3_CH2", 58 PB6 (io) "PB6/I2C1_SCL,USART1_TX,TIM4_CH1", 59 PB7 (io) "PB7/I2C1_SDA,USART1_RX,TIM4_CH2", 60 BOOT0 (in), 61 PB8 (io) "PB8/I2C1_SCL,TIM4_CH3,TIM10_CH1,SDIO_D4", 62 PB9 (io) "PB9/SPI2_NSS/I2S2_WS,I2C1_SDA,TIM4_CH4,TIM11_CH1,SDIO_D5"
part B pins: 1 VBAT (power), 12 VSSA/VREF- (power), 13 VDDA/VREF+ (power), 18 VSS (power), 19 VDD (power), 31 VSS (power), 32 VDD (power), 47 VSS (power), 48 VDD (power), 63 VSS (power), 64 VDD (power)

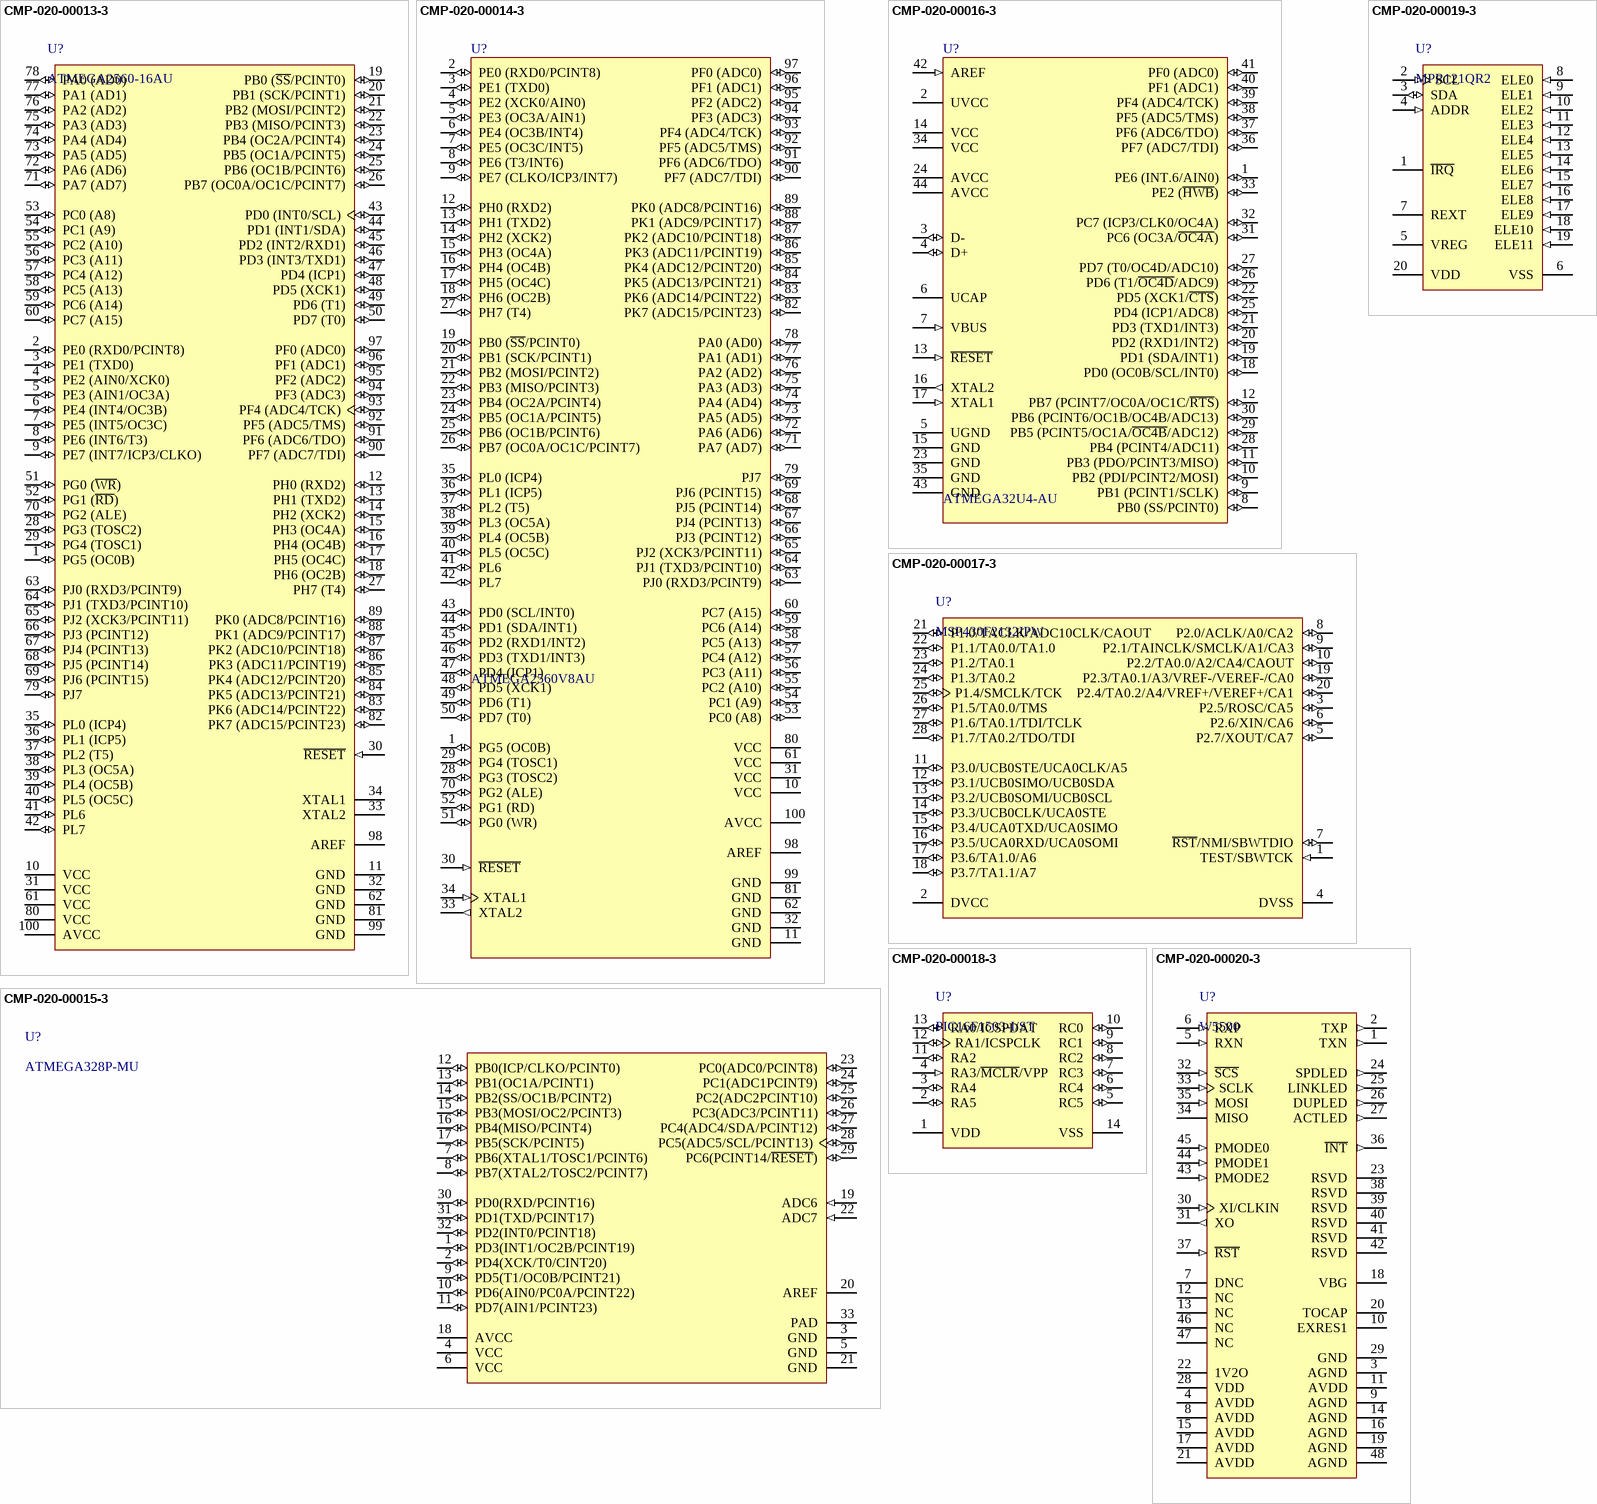
[diagram p5: symbols CMP-020-00013-3 to CMP-020-00020-3]